# Altium integrated library Atmel AT40K.IntLib: 139 symbols (part 3 of 12)
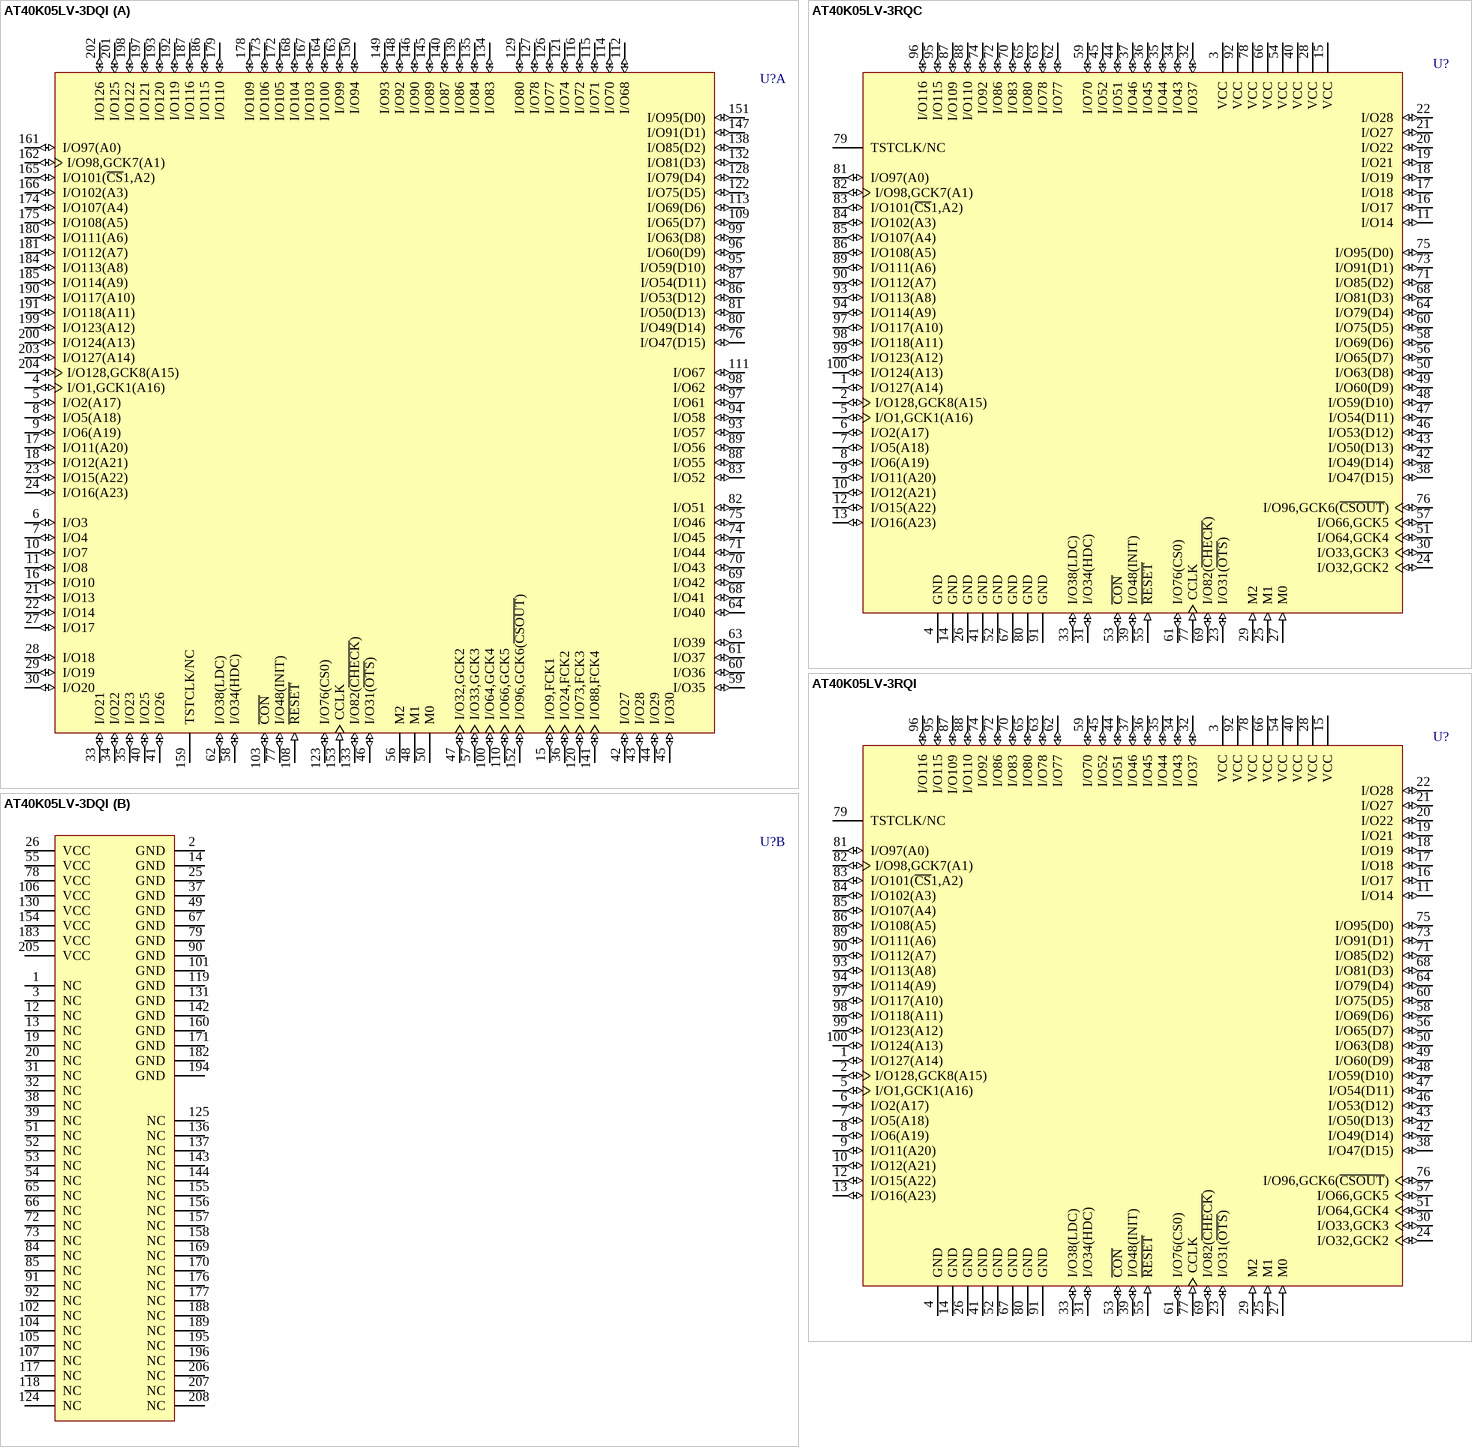
[diagram p109: symbols AT40K05LV-3DQI to AT40K05LV-3RQI]

## AT40K05LV-3DQI
designator U?
AT40K05LV 3.3V FPGA, 128 User I/Os, 208-Lead PQFP, Speed Grade 3, Industrial Grade; Published: 17-Dec-2003; LatestRevisionDate: 13-Apr-2006; LatestRevisionNote: IPC-7351 Footprint Added.; DatasheetVersion: Rev. 0896C-04/02; PackageVersion: rev.A, Nov-2001; PackageReference: 208Q1; Publisher: Altium Limited; PackageDescription: 208-Pin Shrink Quad Flat Pack 0.5 mm Pitch; ComponentLink1Description: Manufacturer Link; ComponentLink1URL: http://www.atmel.com/products/FPGA/; ComponentLink2Description: Datasheet; ComponentLink2URL: http://www.atmel.com/dyn/resources/prod_documents/DOC0896.PDF
footprint 208Q1_N (Shrink QFP, 208-Leads, Body 28x28mm, Pitch 0.5mm, IPC Medium Density)
footprint 208Q1_L (Shrink QFP, 208-Leads, Body 28x28mm, Pitch 0.5mm, IPC High Density)
footprint 208Q1_M (Shrink QFP, 208-Leads, Body 28x28mm, Pitch 0.5mm, IPC Low Density)
3D model AT40K05LV-208Q1 (208-Pin Shrink Quad Flat Pack 0.5 mm Pitch)
part A pins: 4 I/O1,GCK1(A16) (io), 5 I/O2(A17) (io), 6 I/O3 (io), 7 I/O4 (io), 8 I/O5(A18) (io), 9 I/O6(A19) (io), 10 I/O7 (io), 11 I/O8 (io), 15 I/O9,FCK1 (io), 16 I/O10 (io), 17 I/O11(A20) (io), 18 I/O12(A21) (io), 21 I/O13 (io), 22 I/O14 (io), 23 I/O15(A22) (io), 24 I/O16(A23) (io), 27 I/O17 (io), 28 I/O18 (io), 29 I/O19 (io), 30 I/O20 (io), 33 I/O21 (io), 34 I/O22 (io), 35 I/O23 (io), 36 I/O24,FCK2 (io), 40 I/O25 (io), 41 I/O26 (io), 42 I/O27 (io), 43 I/O28 (io), 44 I/O29 (io), 45 I/O30 (io), 46 I/O31(~{OTS}) (io), 47 I/O32,GCK2 (io), 48 M1, 50 M0, 56 M2, 57 I/O33,GCK3 (io), 58 I/O34(HDC) (io), 59 I/O35 (io), 60 I/O36 (io), 61 I/O37 (io), 62 I/O38(LDC) (io), 63 I/O39 (io), 64 I/O40 (io), 68 I/O41 (io), 69 I/O42 (io), 70 I/O43 (io), 71 I/O44 (io), 74 I/O45 (io), 75 I/O46 (io), 76 I/O47(D15) (io), 77 I/O48(INIT) (io), 80 I/O49(D14) (io), 81 I/O50(D13) (io), 82 I/O51 (io), 83 I/O52 (io), 86 I/O53(D12) (io), 87 I/O54(D11) (io), 88 I/O55 (io), 89 I/O56 (io), 93 I/O57 (io), 94 I/O58 (io), 95 I/O59(D10) (io), 96 I/O60(D9) (io), 97 I/O61 (io), 98 I/O62 (io), 99 I/O63(D8) (io), 100 I/O64,GCK4 (io), 103 ~{CON} (io), 108 ~{RESET} (in), 109 I/O65(D7) (io), 110 I/O66,GCK5 (io), 111 I/O67 (io), 112 I/O68 (io), 113 I/O69(D6) (io), 114 I/O70 (io), 115 I/O71 (io), 116 I/O72 (io), 120 I/O73,FCK3 (io), 121 I/O74 (io), 122 I/O75(D5) (io), 123 I/O76(CS0) (io), 126 I/O77 (io), 127 I/O78 (io), 128 I/O79(D4) (io), 129 I/O80 (io), 132 I/O81(D3) (io), 133 I/O82(~{CHECK}) (io), 134 I/O83 (io), 135 I/O84 (io), 138 I/O85(D2) (io), 139 I/O86 (io), 140 I/O87 (io), 141 I/O88,FCK4 (io), 145 I/O89 (io), 146 I/O90 (io), 147 I/O91(D1) (io), 148 I/O92 (io), 149 I/O93 (io), 150 I/O94 (io), 151 I/O95(D0) (io), 152 I/O96,GCK6(~{CSOUT}) (io), 153 CCLK (in), 159 TSTCLK/NC, 161 I/O97(A0) (io), 162 I/O98,GCK7(A1) (io), 163 I/O99 (io), 164 I/O100 (io), 165 I/O101(~{CS}1,A2) (io), 166 I/O102(A3) (io), 167 I/O103 (io), 168 I/O104 (io), 172 I/O105 (io), 173 I/O106 (io), 174 I/O107(A4) (io), 175 I/O108(A5) (io), 178 I/O109 (io), 179 I/O110 (io), 180 I/O111(A6) (io), 181 I/O112(A7) (io), 184 I/O113(A8) (io), 185 I/O114(A9) (io), 186 I/O115 (io), 187 I/O116 (io), 190 I/O117(A10) (io), 191 I/O118(A11) (io), 192 I/O119 (io), 193 I/O120 (io), 197 I/O121 (io), 198 I/O122 (io), 199 I/O123(A12) (io), 200 I/O124(A13) (io), 201 I/O125 (io), 202 I/O126 (io), 203 I/O127(A14) (io), 204 I/O128,GCK8(A15) (io)
part B pins: 1 NC, 2 GND (power), 3 NC, 12 NC, 13 NC, 14 GND (power), 19 NC, 20 NC, 25 GND (power), 26 VCC (power), 31 NC, 32 NC, 37 GND (power), 38 NC, 39 NC, 49 GND (power), 51 NC, 52 NC, 53 NC, 54 NC, 55 VCC (power), 65 NC, 66 NC, 67 GND (power), 72 NC, 73 NC, 78 VCC (power), 79 GND (power), 84 NC, 85 NC, 90 GND (power), 91 NC, 92 NC, 101 GND (power), 102 NC, 104 NC, 105 NC, 106 VCC (power), 107 NC, 117 NC, 118 NC, 119 GND (power), 124 NC, 125 NC, 130 VCC (power), 131 GND (power), 136 NC, 137 NC, 142 GND (power), 143 NC, 144 NC, 154 VCC (power), 155 NC, 156 NC, 157 NC, 158 NC, 160 GND (power), 169 NC, 170 NC, 171 GND (power), 176 NC, 177 NC, 182 GND (power), 183 VCC (power), 188 NC, 189 NC, 194 GND (power), 195 NC, 196 NC, 205 VCC (power), 206 NC, 207 NC, 208 NC

## AT40K05LV-3RQC
designator U?
AT40K05LV 3.3V FPGA, 78 User I/Os, 100-Lead PQFP, Speed Grade 3, Commercial Grade; Published: 17-Dec-2003; LatestRevisionDate: 13-Apr-2006; LatestRevisionNote: IPC-7351 Footprint Added.; DatasheetVersion: Rev. 0896C-04/02; PackageVersion: rev.A, Mar-2002; PackageReference: 100Q4; Publisher: Altium Limited; PackageDescription: 100-Pin Quad Flat Pack Rectangular 0.65 mm Pitch; Code_JEDEC: MS-022-GC-1; Code_IPC: QFP65P1720X2320-100; ComponentLink1Description: Manufacturer Link; ComponentLink1URL: http://www.atmel.com/products/FPGA/; ComponentLink2Description: Datasheet; ComponentLink2URL: http://www.atmel.com/dyn/resources/prod_documents/DOC0896.PDF
footprint 100Q4_N (QFP, 100-Leads, Body 20x14mm, Pitch 0.65mm, IPC Medium Density)
footprint 100Q4_L (QFP, 100-Leads, Body 20x14mm, Pitch 0.65mm, IPC High Density)
footprint 100Q4_M (QFP, 100-Leads, Body 20x14mm, Pitch 0.65mm, IPC Low Density)
3D model AT40K05LV-100Q4 (100-Pin Quad Flat Pack Rectangular 0.65 mm Pitch)
pins: 1 I/O127(A14) (io), 2 I/O128,GCK8(A15) (io), 3 VCC (power), 4 GND (power), 5 I/O1,GCK1(A16) (io), 6 I/O2(A17) (io), 7 I/O5(A18) (io), 8 I/O6(A19) (io), 9 I/O11(A20) (io), 10 I/O12(A21) (io), 11 I/O14 (io), 12 I/O15(A22) (io), 13 I/O16(A23) (io), 14 GND (power), 15 VCC (power), 16 I/O17 (io), 17 I/O18 (io), 18 I/O19 (io), 19 I/O21 (io), 20 I/O22 (io), 21 I/O27 (io), 22 I/O28 (io), 23 I/O31(~{OTS}) (io), 24 I/O32,GCK2 (io), 25 M1 (in), 26 GND (power), 27 M0 (in), 28 VCC (power), 29 M2 (in), 30 I/O33,GCK3 (io), 31 I/O34(HDC) (io), 32 I/O37 (io), 33 I/O38(LDC) (io), 34 I/O43 (io), 35 I/O44 (io), 36 I/O45 (io), 37 I/O46 (io), 38 I/O47(D15) (io), 39 I/O48(INIT) (io), 40 VCC (power), 41 GND (power), 42 I/O49(D14) (io), 43 I/O50(D13) (io), 44 I/O51 (io), 45 I/O52 (io), 46 I/O53(D12) (io), 47 I/O54(D11) (io), 48 I/O59(D10) (io), 49 I/O60(D9) (io), 50 I/O63(D8) (io), 51 I/O64,GCK4 (io), 52 GND (power), 53 ~{CON} (io), 54 VCC (power), 55 ~{RESET} (in), 56 I/O65(D7) (io), 57 I/O66,GCK5 (io), 58 I/O69(D6) (io), 59 I/O70 (io), 60 I/O75(D5) (io), 61 I/O76(CS0) (io), 62 I/O77 (io), 63 I/O78 (io), 64 I/O79(D4) (io), 65 I/O80 (io), 66 VCC (power), 67 GND (power), 68 I/O81(D3) (io), 69 I/O82(~{CHECK}) (io), 70 I/O83 (io), 71 I/O85(D2) (io), 72 I/O86 (io), 73 I/O91(D1) (io), 74 I/O92 (io), 75 I/O95(D0) (io), 76 I/O96,GCK6(~{CSOUT}) (io), 77 CCLK (in), 78 VCC (power), 79 TSTCLK/NC, 80 GND (power), 81 I/O97(A0) (io), 82 I/O98,GCK7(A1) (io), 83 I/O101(~{CS}1,A2) (io), 84 I/O102(A3) (io), 85 I/O107(A4) (io), 86 I/O108(A5) (io), 87 I/O109 (io), 88 I/O110 (io), 89 I/O111(A6) (io), 90 I/O112(A7) (io), 91 GND (power), 92 VCC (power), 93 I/O113(A8) (io), 94 I/O114(A9) (io), 95 I/O115 (io), 96 I/O116 (io), 97 I/O117(A10) (io), 98 I/O118(A11) (io), 99 I/O123(A12) (io), 100 I/O124(A13) (io)

## AT40K05LV-3RQI
designator U?
AT40K05LV 3.3V FPGA, 78 User I/Os, 100-Lead PQFP, Speed Grade 3, Industrial Grade; Published: 17-Dec-2003; LatestRevisionDate: 13-Apr-2006; LatestRevisionNote: IPC-7351 Footprint Added.; DatasheetVersion: Rev. 0896C-04/02; PackageVersion: rev.A, Mar-2002; PackageReference: 100Q4; Publisher: Altium Limited; PackageDescription: 100-Pin Quad Flat Pack Rectangular 0.65 mm Pitch; Code_JEDEC: MS-022-GC-1; Code_IPC: QFP65P1720X2320-100; ComponentLink1Description: Manufacturer Link; ComponentLink1URL: http://www.atmel.com/products/FPGA/; ComponentLink2Description: Datasheet; ComponentLink2URL: http://www.atmel.com/dyn/resources/prod_documents/DOC0896.PDF
footprint 100Q4_N (QFP, 100-Leads, Body 20x14mm, Pitch 0.65mm, IPC Medium Density)
footprint 100Q4_L (QFP, 100-Leads, Body 20x14mm, Pitch 0.65mm, IPC High Density)
footprint 100Q4_M (QFP, 100-Leads, Body 20x14mm, Pitch 0.65mm, IPC Low Density)
3D model AT40K05LV-100Q4 (100-Pin Quad Flat Pack Rectangular 0.65 mm Pitch)
pins: 1 I/O127(A14) (io), 2 I/O128,GCK8(A15) (io), 3 VCC (power), 4 GND (power), 5 I/O1,GCK1(A16) (io), 6 I/O2(A17) (io), 7 I/O5(A18) (io), 8 I/O6(A19) (io), 9 I/O11(A20) (io), 10 I/O12(A21) (io), 11 I/O14 (io), 12 I/O15(A22) (io), 13 I/O16(A23) (io), 14 GND (power), 15 VCC (power), 16 I/O17 (io), 17 I/O18 (io), 18 I/O19 (io), 19 I/O21 (io), 20 I/O22 (io), 21 I/O27 (io), 22 I/O28 (io), 23 I/O31(~{OTS}) (io), 24 I/O32,GCK2 (io), 25 M1 (in), 26 GND (power), 27 M0 (in), 28 VCC (power), 29 M2 (in), 30 I/O33,GCK3 (io), 31 I/O34(HDC) (io), 32 I/O37 (io), 33 I/O38(LDC) (io), 34 I/O43 (io), 35 I/O44 (io), 36 I/O45 (io), 37 I/O46 (io), 38 I/O47(D15) (io), 39 I/O48(INIT) (io), 40 VCC (power), 41 GND (power), 42 I/O49(D14) (io), 43 I/O50(D13) (io), 44 I/O51 (io), 45 I/O52 (io), 46 I/O53(D12) (io), 47 I/O54(D11) (io), 48 I/O59(D10) (io), 49 I/O60(D9) (io), 50 I/O63(D8) (io), 51 I/O64,GCK4 (io), 52 GND (power), 53 ~{CON} (io), 54 VCC (power), 55 ~{RESET} (in), 56 I/O65(D7) (io), 57 I/O66,GCK5 (io), 58 I/O69(D6) (io), 59 I/O70 (io), 60 I/O75(D5) (io), 61 I/O76(CS0) (io), 62 I/O77 (io), 63 I/O78 (io), 64 I/O79(D4) (io), 65 I/O80 (io), 66 VCC (power), 67 GND (power), 68 I/O81(D3) (io), 69 I/O82(~{CHECK}) (io), 70 I/O83 (io), 71 I/O85(D2) (io), 72 I/O86 (io), 73 I/O91(D1) (io), 74 I/O92 (io), 75 I/O95(D0) (io), 76 I/O96,GCK6(~{CSOUT}) (io), 77 CCLK (in), 78 VCC (power), 79 TSTCLK/NC, 80 GND (power), 81 I/O97(A0) (io), 82 I/O98,GCK7(A1) (io), 83 I/O101(~{CS}1,A2) (io), 84 I/O102(A3) (io), 85 I/O107(A4) (io), 86 I/O108(A5) (io), 87 I/O109 (io), 88 I/O110 (io), 89 I/O111(A6) (io), 90 I/O112(A7) (io), 91 GND (power), 92 VCC (power), 93 I/O113(A8) (io), 94 I/O114(A9) (io), 95 I/O115 (io), 96 I/O116 (io), 97 I/O117(A10) (io), 98 I/O118(A11) (io), 99 I/O123(A12) (io), 100 I/O124(A13) (io)

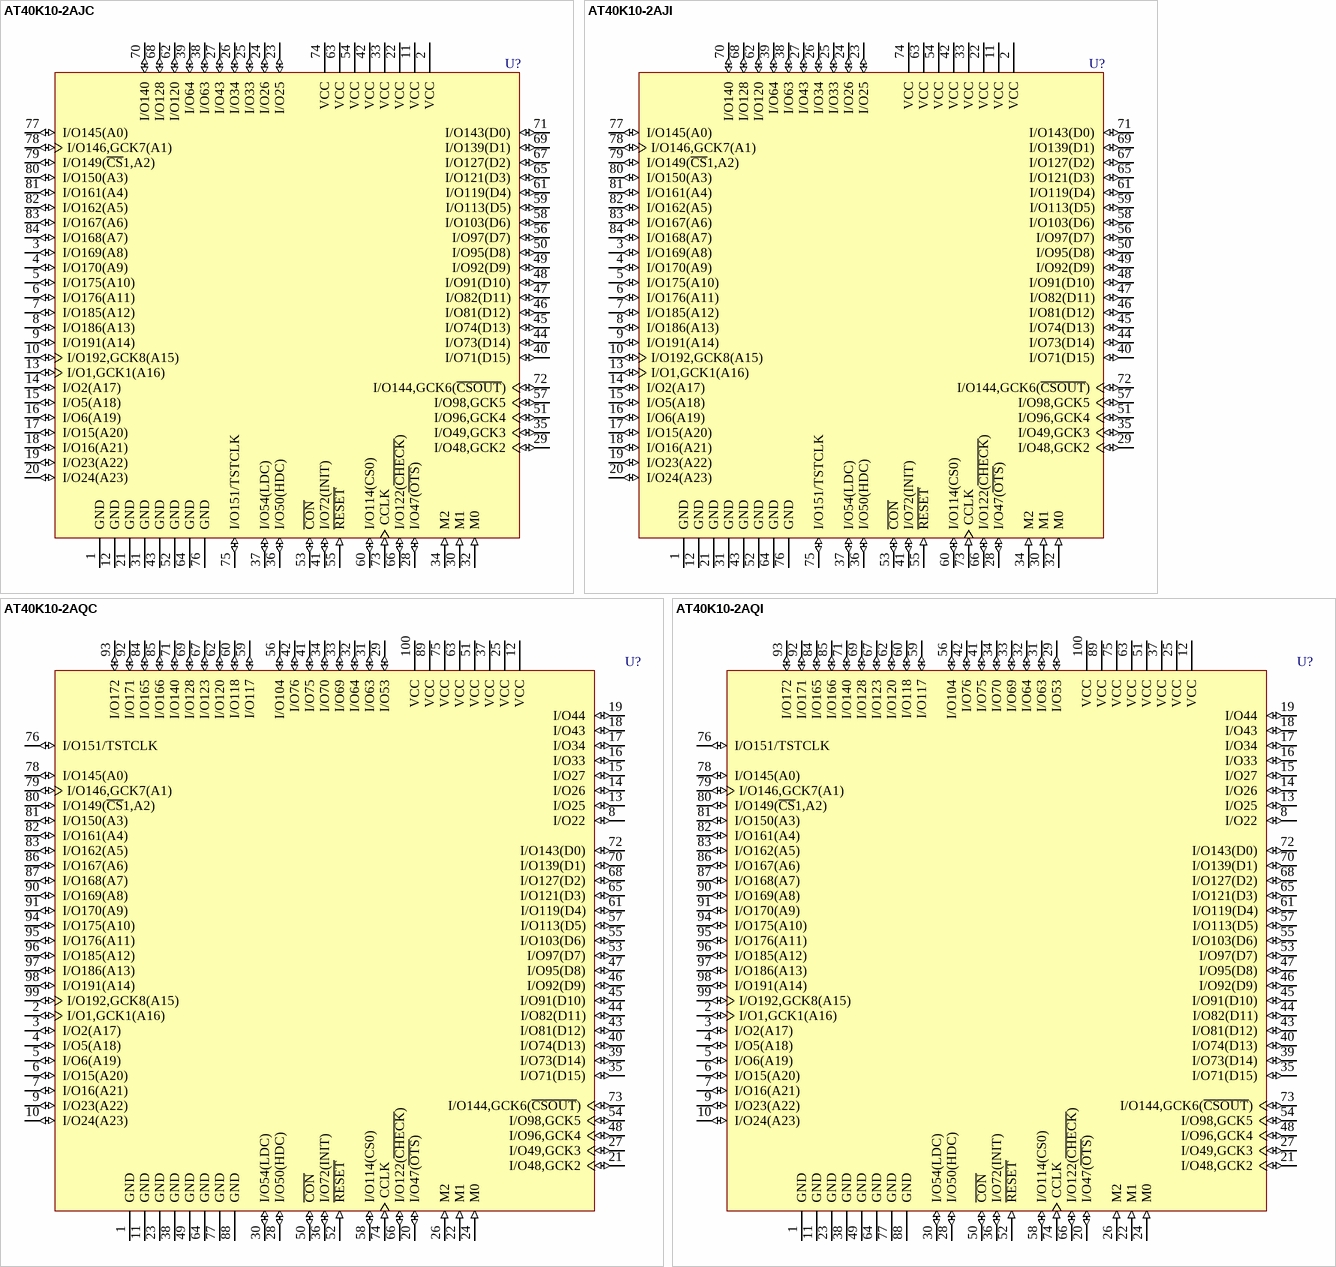
[diagram p18: symbols AT40K10-2AJC to AT40K10-2AQI]

## AT40K10-2AJC
designator U?
AT40K10 5.0V FPGA, 82 User I/Os, 84-Lead PLCC, Speed Grade 2, Commercial Grade; Published: 15-Apr-2002; LatestRevisionDate: 13-Apr-2006; LatestRevisionNote: IPC-7351 Footprint Added.; DatasheetVersion: Rev. 0896C-04/02; PackageVersion: rev.B, Oct-2001; PackageReference: 84J; Publisher: Altium Limited; PackageDescription: 84J, 84-lead, Plastic J-leaded Chip Carrier (PLCC); Code_JEDEC: MS-018-AF; Code_IPC: PLCC-84; ComponentLink1Description: Manufacturer Link; ComponentLink1URL: http://www.atmel.com/products/FPGA/; ComponentLink2Description: Datasheet; ComponentLink2URL: http://www.atmel.com/dyn/resources/prod_documents/DOC0896.PDF
footprint 84J_N (Leaded Chip Carrier, 84-Leads, Body 29.3x29.3mm, Pitch 1.27mm, IPC Medium Density)
footprint 84J_L (Leaded Chip Carrier, 84-Leads, Body 29.3x29.3mm, Pitch 1.27mm, IPC High Density)
footprint 84J_M (Leaded Chip Carrier, 84-Leads, Body 29.3x29.3mm, Pitch 1.27mm, IPC Low Density)
3D model AT40K10-84J (84J, 84-lead, Plastic J-leaded Chip Carrier (PLCC))
pins: 1 GND (power), 2 VCC (power), 3 I/O169(A8) (io), 4 I/O170(A9) (io), 5 I/O175(A10) (io), 6 I/O176(A11) (io), 7 I/O185(A12) (io), 8 I/O186(A13) (io), 9 I/O191(A14) (io), 10 I/O192,GCK8(A15) (io), 11 VCC (power), 12 GND (power), 13 I/O1,GCK1(A16) (io), 14 I/O2(A17) (io), 15 I/O5(A18) (io), 16 I/O6(A19) (io), 17 I/O15(A20) (io), 18 I/O16(A21) (io), 19 I/O23(A22) (io), 20 I/O24(A23) (io), 21 GND (power), 22 VCC (power), 23 I/O25 (io), 24 I/O26 (io), 25 I/O33 (io), 26 I/O34 (io), 27 I/O43 (io), 28 I/O47(~{OTS}) (io), 29 I/O48,GCK2 (io), 30 M1 (in), 31 GND (power), 32 M0 (in), 33 VCC (power), 34 M2 (in), 35 I/O49,GCK3 (io), 36 I/O50(HDC) (io), 37 I/O54(LDC) (io), 38 I/O63 (io), 39 I/O64 (io), 40 I/O71(D15) (io), 41 I/O72(INIT) (io), 42 VCC (power), 43 GND (power), 44 I/O73(D14) (io), 45 I/O74(D13) (io), 46 I/O81(D12) (io), 47 I/O82(D11) (io), 48 I/O91(D10) (io), 49 I/O92(D9) (io), 50 I/O95(D8) (io), 51 I/O96,GCK4 (io), 52 GND (power), 53 ~{CON} (io), 54 VCC (power), 55 ~{RESET} (in), 56 I/O97(D7) (io), 57 I/O98,GCK5 (io), 58 I/O103(D6) (io), 59 I/O113(D5) (io), 60 I/O114(CS0) (io), 61 I/O119(D4) (io), 62 I/O120 (io), 63 VCC (power), 64 GND (power), 65 I/O121(D3) (io), 66 I/O122(~{CHECK}) (io), 67 I/O127(D2) (io), 68 I/O128 (io), 69 I/O139(D1) (io), 70 I/O140 (io), 71 I/O143(D0) (io), 72 I/O144,GCK6(~{CSOUT}) (io), 73 CCLK (in), 74 VCC (power), 75 I/O151/TSTCLK (io), 76 GND (power), 77 I/O145(A0) (io), 78 I/O146,GCK7(A1) (io), 79 I/O149(~{CS}1,A2) (io), 80 I/O150(A3) (io), 81 I/O161(A4) (io), 82 I/O162(A5) (io), 83 I/O167(A6) (io), 84 I/O168(A7) (io)

## AT40K10-2AJI
designator U?
AT40K10 5.0V FPGA, 82 User I/Os, 84-Lead PLCC, Speed Grade 2, Industrial Grade; Published: 15-Apr-2002; LatestRevisionDate: 13-Apr-2006; LatestRevisionNote: IPC-7351 Footprint Added.; DatasheetVersion: Rev. 0896C-04/02; PackageVersion: rev.B, Oct-2001; PackageReference: 84J; Publisher: Altium Limited; PackageDescription: 84J, 84-lead, Plastic J-leaded Chip Carrier (PLCC); Code_JEDEC: MS-018-AF; Code_IPC: PLCC-84; ComponentLink1Description: Manufacturer Link; ComponentLink1URL: http://www.atmel.com/products/FPGA/; ComponentLink2Description: Datasheet; ComponentLink2URL: http://www.atmel.com/dyn/resources/prod_documents/DOC0896.PDF
footprint 84J_N (Leaded Chip Carrier, 84-Leads, Body 29.3x29.3mm, Pitch 1.27mm, IPC Medium Density)
footprint 84J_L (Leaded Chip Carrier, 84-Leads, Body 29.3x29.3mm, Pitch 1.27mm, IPC High Density)
footprint 84J_M (Leaded Chip Carrier, 84-Leads, Body 29.3x29.3mm, Pitch 1.27mm, IPC Low Density)
3D model AT40K10-84J (84J, 84-lead, Plastic J-leaded Chip Carrier (PLCC))
pins: 1 GND (power), 2 VCC (power), 3 I/O169(A8) (io), 4 I/O170(A9) (io), 5 I/O175(A10) (io), 6 I/O176(A11) (io), 7 I/O185(A12) (io), 8 I/O186(A13) (io), 9 I/O191(A14) (io), 10 I/O192,GCK8(A15) (io), 11 VCC (power), 12 GND (power), 13 I/O1,GCK1(A16) (io), 14 I/O2(A17) (io), 15 I/O5(A18) (io), 16 I/O6(A19) (io), 17 I/O15(A20) (io), 18 I/O16(A21) (io), 19 I/O23(A22) (io), 20 I/O24(A23) (io), 21 GND (power), 22 VCC (power), 23 I/O25 (io), 24 I/O26 (io), 25 I/O33 (io), 26 I/O34 (io), 27 I/O43 (io), 28 I/O47(~{OTS}) (io), 29 I/O48,GCK2 (io), 30 M1 (in), 31 GND (power), 32 M0 (in), 33 VCC (power), 34 M2 (in), 35 I/O49,GCK3 (io), 36 I/O50(HDC) (io), 37 I/O54(LDC) (io), 38 I/O63 (io), 39 I/O64 (io), 40 I/O71(D15) (io), 41 I/O72(INIT) (io), 42 VCC (power), 43 GND (power), 44 I/O73(D14) (io), 45 I/O74(D13) (io), 46 I/O81(D12) (io), 47 I/O82(D11) (io), 48 I/O91(D10) (io), 49 I/O92(D9) (io), 50 I/O95(D8) (io), 51 I/O96,GCK4 (io), 52 GND (power), 53 ~{CON} (io), 54 VCC (power), 55 ~{RESET} (in), 56 I/O97(D7) (io), 57 I/O98,GCK5 (io), 58 I/O103(D6) (io), 59 I/O113(D5) (io), 60 I/O114(CS0) (io), 61 I/O119(D4) (io), 62 I/O120 (io), 63 VCC (power), 64 GND (power), 65 I/O121(D3) (io), 66 I/O122(~{CHECK}) (io), 67 I/O127(D2) (io), 68 I/O128 (io), 69 I/O139(D1) (io), 70 I/O140 (io), 71 I/O143(D0) (io), 72 I/O144,GCK6(~{CSOUT}) (io), 73 CCLK (in), 74 VCC (power), 75 I/O151/TSTCLK (io), 76 GND (power), 77 I/O145(A0) (io), 78 I/O146,GCK7(A1) (io), 79 I/O149(~{CS}1,A2) (io), 80 I/O150(A3) (io), 81 I/O161(A4) (io), 82 I/O162(A5) (io), 83 I/O167(A6) (io), 84 I/O168(A7) (io)

## AT40K10-2AQC
designator U?
AT40K10 5.0V FPGA, 78 User I/Os, 100-Lead PQFP, Speed Grade 2, Commercial Grade; Published: 15-Apr-2002; LatestRevisionDate: 13-Apr-2006; LatestRevisionNote: IPC-7351 Footprint Added.; DatasheetVersion: Rev. 0896C-04/02; PackageVersion: rev.A, Nov-2001; PackageReference: 100T1; Publisher: Altium Limited; PackageDescription: 100-Pin Thin Quad Flat Pack 0.5 mm Pitch; Code_JEDEC: MS-026-AED; ComponentLink1Description: Manufacturer Link; ComponentLink1URL: http://www.atmel.com/products/FPGA/; ComponentLink2Description: Datasheet; ComponentLink2URL: http://www.atmel.com/dyn/resources/prod_documents/DOC0896.PDF
footprint 100T1_N (Thin QFP, 100-Leads, Body 14x14mm, Pitch 0.5mm, IPC Medium Density)
footprint 100T1_L (Thin QFP, 100-Leads, Body 14x14mm, Pitch 0.5mm, IPC High Density)
footprint 100T1_M (Thin QFP, 100-Leads, Body 14x14mm, Pitch 0.5mm, IPC Low Density)
3D model AT40K10-100T1 (100-Pin Thin Quad Flat Pack 0.5 mm Pitch)
pins: 1 GND (power), 2 I/O1,GCK1(A16) (io), 3 I/O2(A17) (io), 4 I/O5(A18) (io), 5 I/O6(A19) (io), 6 I/O15(A20) (io), 7 I/O16(A21) (io), 8 I/O22 (io), 9 I/O23(A22) (io), 10 I/O24(A23) (io), 11 GND (power), 12 VCC (power), 13 I/O25 (io), 14 I/O26 (io), 15 I/O27 (io), 16 I/O33 (io), 17 I/O34 (io), 18 I/O43 (io), 19 I/O44 (io), 20 I/O47(~{OTS}) (io), 21 I/O48,GCK2 (io), 22 M1 (in), 23 GND (power), 24 M0 (in), 25 VCC (power), 26 M2 (in), 27 I/O49,GCK3 (io), 28 I/O50(HDC) (io), 29 I/O53 (io), 30 I/O54(LDC) (io), 31 I/O63 (io), 32 I/O64 (io), 33 I/O69 (io), 34 I/O70 (io), 35 I/O71(D15) (io), 36 I/O72(INIT) (io), 37 VCC (power), 38 GND (power), 39 I/O73(D14) (io), 40 I/O74(D13) (io), 41 I/O75 (io), 42 I/O76 (io), 43 I/O81(D12) (io), 44 I/O82(D11) (io), 45 I/O91(D10) (io), 46 I/O92(D9) (io), 47 I/O95(D8) (io), 48 I/O96,GCK4 (io), 49 GND (power), 50 ~{CON} (io), 51 VCC (power), 52 ~{RESET} (in), 53 I/O97(D7) (io), 54 I/O98,GCK5 (io), 55 I/O103(D6) (io), 56 I/O104 (io), 57 I/O113(D5) (io), 58 I/O114(CS0) (io), 59 I/O117 (io), 60 I/O118 (io), 61 I/O119(D4) (io), 62 I/O120 (io), 63 VCC (power), 64 GND (power), 65 I/O121(D3) (io), 66 I/O122(~{CHECK}) (io), 67 I/O123 (io), 68 I/O127(D2) (io), 69 I/O128 (io), 70 I/O139(D1) (io), 71 I/O140 (io), 72 I/O143(D0) (io), 73 I/O144,GCK6(~{CSOUT}) (io), 74 CCLK (in), 75 VCC (power), 76 I/O151/TSTCLK (io), 77 GND (power), 78 I/O145(A0) (io), 79 I/O146,GCK7(A1) (io), 80 I/O149(~{CS}1,A2) (io), 81 I/O150(A3) (io), 82 I/O161(A4) (io), 83 I/O162(A5) (io), 84 I/O165 (io), 85 I/O166 (io), 86 I/O167(A6) (io), 87 I/O168(A7) (io), 88 GND (power), 89 VCC (power), 90 I/O169(A8) (io), 91 I/O170(A9) (io), 92 I/O171 (io), 93 I/O172 (io), 94 I/O175(A10) (io), 95 I/O176(A11) (io), 96 I/O185(A12) (io), 97 I/O186(A13) (io), 98 I/O191(A14) (io), 99 I/O192,GCK8(A15) (io), 100 VCC (power)

## AT40K10-2AQI
designator U?
AT40K10 5.0V FPGA, 78 User I/Os, 100-Lead PQFP, Speed Grade 2, Industrial Grade; Published: 15-Apr-2002; LatestRevisionDate: 13-Apr-2006; LatestRevisionNote: IPC-7351 Footprint Added.; DatasheetVersion: Rev. 0896C-04/02; PackageVersion: rev.A, Nov-2001; PackageReference: 100T1; Publisher: Altium Limited; PackageDescription: 100-Pin Thin Quad Flat Pack 0.5 mm Pitch; Code_JEDEC: MS-026-AED; ComponentLink1Description: Manufacturer Link; ComponentLink1URL: http://www.atmel.com/products/FPGA/; ComponentLink2Description: Datasheet; ComponentLink2URL: http://www.atmel.com/dyn/resources/prod_documents/DOC0896.PDF
footprint 100T1_N (Thin QFP, 100-Leads, Body 14x14mm, Pitch 0.5mm, IPC Medium Density)
footprint 100T1_L (Thin QFP, 100-Leads, Body 14x14mm, Pitch 0.5mm, IPC High Density)
footprint 100T1_M (Thin QFP, 100-Leads, Body 14x14mm, Pitch 0.5mm, IPC Low Density)
3D model AT40K10-100T1 (100-Pin Thin Quad Flat Pack 0.5 mm Pitch)
pins: 1 GND (power), 2 I/O1,GCK1(A16) (io), 3 I/O2(A17) (io), 4 I/O5(A18) (io), 5 I/O6(A19) (io), 6 I/O15(A20) (io), 7 I/O16(A21) (io), 8 I/O22 (io), 9 I/O23(A22) (io), 10 I/O24(A23) (io), 11 GND (power), 12 VCC (power), 13 I/O25 (io), 14 I/O26 (io), 15 I/O27 (io), 16 I/O33 (io), 17 I/O34 (io), 18 I/O43 (io), 19 I/O44 (io), 20 I/O47(~{OTS}) (io), 21 I/O48,GCK2 (io), 22 M1 (in), 23 GND (power), 24 M0 (in), 25 VCC (power), 26 M2 (in), 27 I/O49,GCK3 (io), 28 I/O50(HDC) (io), 29 I/O53 (io), 30 I/O54(LDC) (io), 31 I/O63 (io), 32 I/O64 (io), 33 I/O69 (io), 34 I/O70 (io), 35 I/O71(D15) (io), 36 I/O72(INIT) (io), 37 VCC (power), 38 GND (power), 39 I/O73(D14) (io), 40 I/O74(D13) (io), 41 I/O75 (io), 42 I/O76 (io), 43 I/O81(D12) (io), 44 I/O82(D11) (io), 45 I/O91(D10) (io), 46 I/O92(D9) (io), 47 I/O95(D8) (io), 48 I/O96,GCK4 (io), 49 GND (power), 50 ~{CON} (io), 51 VCC (power), 52 ~{RESET} (in), 53 I/O97(D7) (io), 54 I/O98,GCK5 (io), 55 I/O103(D6) (io), 56 I/O104 (io), 57 I/O113(D5) (io), 58 I/O114(CS0) (io), 59 I/O117 (io), 60 I/O118 (io), 61 I/O119(D4) (io), 62 I/O120 (io), 63 VCC (power), 64 GND (power), 65 I/O121(D3) (io), 66 I/O122(~{CHECK}) (io), 67 I/O123 (io), 68 I/O127(D2) (io), 69 I/O128 (io), 70 I/O139(D1) (io), 71 I/O140 (io), 72 I/O143(D0) (io), 73 I/O144,GCK6(~{CSOUT}) (io), 74 CCLK (in), 75 VCC (power), 76 I/O151/TSTCLK (io), 77 GND (power), 78 I/O145(A0) (io), 79 I/O146,GCK7(A1) (io), 80 I/O149(~{CS}1,A2) (io), 81 I/O150(A3) (io), 82 I/O161(A4) (io), 83 I/O162(A5) (io), 84 I/O165 (io), 85 I/O166 (io), 86 I/O167(A6) (io), 87 I/O168(A7) (io), 88 GND (power), 89 VCC (power), 90 I/O169(A8) (io), 91 I/O170(A9) (io), 92 I/O171 (io), 93 I/O172 (io), 94 I/O175(A10) (io), 95 I/O176(A11) (io), 96 I/O185(A12) (io), 97 I/O186(A13) (io), 98 I/O191(A14) (io), 99 I/O192,GCK8(A15) (io), 100 VCC (power)

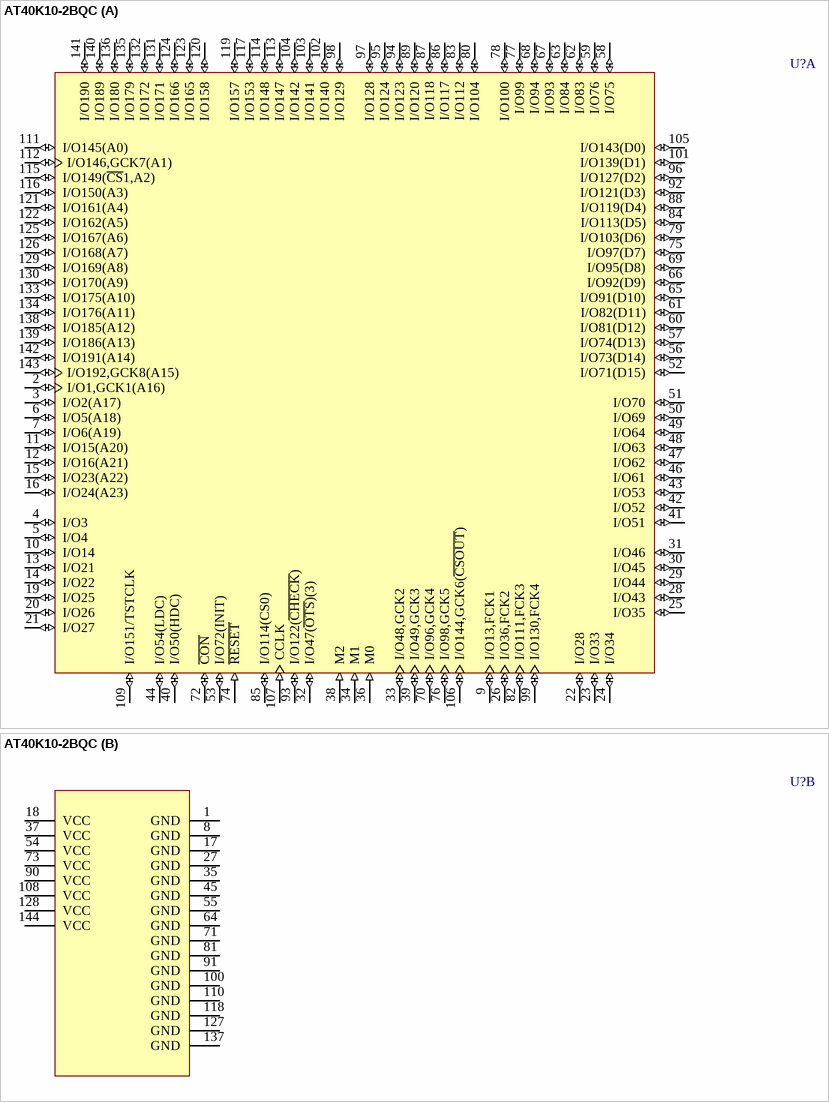
[diagram p19: symbol AT40K10-2BQC]

## AT40K10-2BQC
designator U?
AT40K10 5.0V FPGA, 114 User I/Os, 144-Lead LQFP, Speed Grade 2, Commercial Grade; Published: 15-Apr-2002; LatestRevisionDate: 13-Apr-2006; LatestRevisionNote: IPC-7351 Footprint Added.; DatasheetVersion: Rev. 0896C-04/02; PackageVersion: rev.A, Nov-2001; PackageReference: 144L1; Publisher: Altium Limited; PackageDescription: 144-Pin Thin Quad Flat Pack 0.5 mm Pitch; Code_JEDEC: MS-026-BFB; ComponentLink1Description: Manufacturer Link; ComponentLink1URL: http://www.atmel.com/products/FPGA/; ComponentLink2Description: Datasheet; ComponentLink2URL: http://www.atmel.com/dyn/resources/prod_documents/DOC0896.PDF
footprint 144L1_N (Thin QFP, 144-Leads, Body 20x20mm, Pitch 0.5mm, IPC Medium Density)
footprint 144L1_L (Thin QFP, 144-Leads, Body 20x20mm, Pitch 0.5mm, IPC High Density)
footprint 144L1_M (Thin QFP, 144-Leads, Body 20x20mm, Pitch 0.5mm, IPC Low Density)
3D model AT40K10-144L1 (144-Pin Thin Quad Flat Pack 0.5 mm Pitch)
part A pins: 2 I/O1,GCK1(A16) (io), 3 I/O2(A17) (io), 4 I/O3 (io), 5 I/O4 (io), 6 I/O5(A18) (io), 7 I/O6(A19) (io), 9 I/O13,FCK1 (io), 10 I/O14 (io), 11 I/O15(A20) (io), 12 I/O16(A21) (io), 13 I/O21 (io), 14 I/O22 (io), 15 I/O23(A22) (io), 16 I/O24(A23) (io), 19 I/O25 (io), 20 I/O26 (io), 21 I/O27 (io), 22 I/O28 (io), 23 I/O33 (io), 24 I/O34 (io), 25 I/O35 (io), 26 I/O36,FCK2 (io), 28 I/O43 (io), 29 I/O44 (io), 30 I/O45 (io), 31 I/O46 (io), 32 I/O47(~{OTS})(3) (io), 33 I/O48,GCK2 (io), 34 M1 (in), 36 M0 (in), 38 M2 (in), 39 I/O49,GCK3 (io), 40 I/O50(HDC) (io), 41 I/O51 (io), 42 I/O52 (io), 43 I/O53 (io), 44 I/O54(LDC) (io), 46 I/O61 (io), 47 I/O62 (io), 48 I/O63 (io), 49 I/O64 (io), 50 I/O69 (io), 51 I/O70 (io), 52 I/O71(D15) (io), 53 I/O72(INIT) (io), 56 I/O73(D14) (io), 57 I/O74(D13) (io), 58 I/O75 (io), 59 I/O76 (io), 60 I/O81(D12) (io), 61 I/O82(D11) (io), 62 I/O83 (io), 63 I/O84 (io), 65 I/O91(D10) (io), 66 I/O92(D9) (io), 67 I/O93 (io), 68 I/O94 (io), 69 I/O95(D8) (io), 70 I/O96,GCK4 (io), 72 ~{CON} (io), 74 ~{RESET} (in), 75 I/O97(D7) (io), 76 I/O98,GCK5 (io), 77 I/O99 (io), 78 I/O100 (io), 79 I/O103(D6) (io), 80 I/O104 (io), 82 I/O111,FCK3 (io), 83 I/O112 (io), 84 I/O113(D5) (io), 85 I/O114(CS0) (io), 86 I/O117 (io), 87 I/O118 (io), 88 I/O119(D4) (io), 89 I/O120 (io), 92 I/O121(D3) (io), 93 I/O122(~{CHECK}) (io), 94 I/O123 (io), 95 I/O124 (io), 96 I/O127(D2) (io), 97 I/O128 (io), 98 I/O129 (io), 99 I/O130,FCK4 (io), 101 I/O139(D1) (io), 102 I/O140 (io), 103 I/O141 (io), 104 I/O142 (io), 105 I/O143(D0) (io), 106 I/O144,GCK6(~{CSOUT}) (io), 107 CCLK (in), 109 I/O151/TSTCLK (io), 111 I/O145(A0) (io), 112 I/O146,GCK7(A1) (io), 113 I/O147 (io), 114 I/O148 (io), 115 I/O149(~{CS}1,A2) (io), 116 I/O150(A3) (io), 117 I/O153 (io), 119 I/O157 (io), 120 I/O158 (io), 121 I/O161(A4) (io), 122 I/O162(A5) (io), 123 I/O165 (io), 124 I/O166 (io), 125 I/O167(A6) (io), 126 I/O168(A7) (io), 129 I/O169(A8) (io), 130 I/O170(A9) (io), 131 I/O171 (io), 132 I/O172 (io), 133 I/O175(A10) (io), 134 I/O176(A11) (io), 135 I/O179 (io), 136 I/O180 (io), 138 I/O185(A12) (io), 139 I/O186(A13) (io), 140 I/O189 (io), 141 I/O190 (io), 142 I/O191(A14) (io), 143 I/O192,GCK8(A15) (io)
part B pins: 1 GND (power), 8 GND (power), 17 GND (power), 18 VCC (power), 27 GND (power), 35 GND (power), 37 VCC (power), 45 GND (power), 54 VCC (power), 55 GND (power), 64 GND (power), 71 GND (power), 73 VCC (power), 81 GND (power), 90 VCC (power), 91 GND (power), 100 GND (power), 108 VCC (power), 110 GND (power), 118 GND (power), 127 GND (power), 128 VCC (power), 137 GND (power), 144 VCC (power)

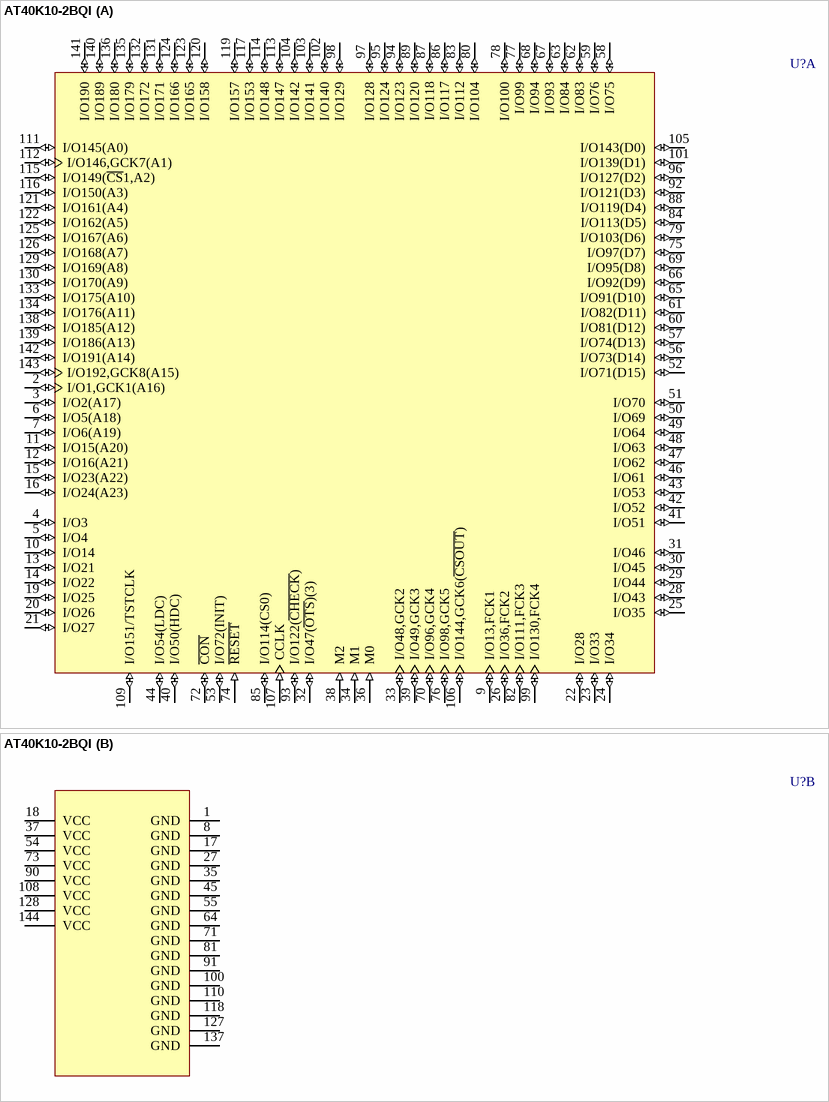
[diagram p20: symbol AT40K10-2BQI]

## AT40K10-2BQI
designator U?
AT40K10 5.0V FPGA, 114 User I/Os, 144-Lead LQFP, Speed Grade 2, Industrial Grade; Published: 15-Apr-2002; LatestRevisionDate: 13-Apr-2006; LatestRevisionNote: IPC-7351 Footprint Added.; DatasheetVersion: Rev. 0896C-04/02; PackageVersion: rev.A, Nov-2001; PackageReference: 144L1; Publisher: Altium Limited; PackageDescription: 144-Pin Thin Quad Flat Pack 0.5 mm Pitch; Code_JEDEC: MS-026-BFB; ComponentLink1Description: Manufacturer Link; ComponentLink1URL: http://www.atmel.com/products/FPGA/; ComponentLink2Description: Datasheet; ComponentLink2URL: http://www.atmel.com/dyn/resources/prod_documents/DOC0896.PDF
footprint 144L1_N (Thin QFP, 144-Leads, Body 20x20mm, Pitch 0.5mm, IPC Medium Density)
footprint 144L1_L (Thin QFP, 144-Leads, Body 20x20mm, Pitch 0.5mm, IPC High Density)
footprint 144L1_M (Thin QFP, 144-Leads, Body 20x20mm, Pitch 0.5mm, IPC Low Density)
3D model AT40K10-144L1 (144-Pin Thin Quad Flat Pack 0.5 mm Pitch)
part A pins: 2 I/O1,GCK1(A16) (io), 3 I/O2(A17) (io), 4 I/O3 (io), 5 I/O4 (io), 6 I/O5(A18) (io), 7 I/O6(A19) (io), 9 I/O13,FCK1 (io), 10 I/O14 (io), 11 I/O15(A20) (io), 12 I/O16(A21) (io), 13 I/O21 (io), 14 I/O22 (io), 15 I/O23(A22) (io), 16 I/O24(A23) (io), 19 I/O25 (io), 20 I/O26 (io), 21 I/O27 (io), 22 I/O28 (io), 23 I/O33 (io), 24 I/O34 (io), 25 I/O35 (io), 26 I/O36,FCK2 (io), 28 I/O43 (io), 29 I/O44 (io), 30 I/O45 (io), 31 I/O46 (io), 32 I/O47(~{OTS})(3) (io), 33 I/O48,GCK2 (io), 34 M1 (in), 36 M0 (in), 38 M2 (in), 39 I/O49,GCK3 (io), 40 I/O50(HDC) (io), 41 I/O51 (io), 42 I/O52 (io), 43 I/O53 (io), 44 I/O54(LDC) (io), 46 I/O61 (io), 47 I/O62 (io), 48 I/O63 (io), 49 I/O64 (io), 50 I/O69 (io), 51 I/O70 (io), 52 I/O71(D15) (io), 53 I/O72(INIT) (io), 56 I/O73(D14) (io), 57 I/O74(D13) (io), 58 I/O75 (io), 59 I/O76 (io), 60 I/O81(D12) (io), 61 I/O82(D11) (io), 62 I/O83 (io), 63 I/O84 (io), 65 I/O91(D10) (io), 66 I/O92(D9) (io), 67 I/O93 (io), 68 I/O94 (io), 69 I/O95(D8) (io), 70 I/O96,GCK4 (io), 72 ~{CON} (io), 74 ~{RESET} (in), 75 I/O97(D7) (io), 76 I/O98,GCK5 (io), 77 I/O99 (io), 78 I/O100 (io), 79 I/O103(D6) (io), 80 I/O104 (io), 82 I/O111,FCK3 (io), 83 I/O112 (io), 84 I/O113(D5) (io), 85 I/O114(CS0) (io), 86 I/O117 (io), 87 I/O118 (io), 88 I/O119(D4) (io), 89 I/O120 (io), 92 I/O121(D3) (io), 93 I/O122(~{CHECK}) (io), 94 I/O123 (io), 95 I/O124 (io), 96 I/O127(D2) (io), 97 I/O128 (io), 98 I/O129 (io), 99 I/O130,FCK4 (io), 101 I/O139(D1) (io), 102 I/O140 (io), 103 I/O141 (io), 104 I/O142 (io), 105 I/O143(D0) (io), 106 I/O144,GCK6(~{CSOUT}) (io), 107 CCLK (in), 109 I/O151/TSTCLK (io), 111 I/O145(A0) (io), 112 I/O146,GCK7(A1) (io), 113 I/O147 (io), 114 I/O148 (io), 115 I/O149(~{CS}1,A2) (io), 116 I/O150(A3) (io), 117 I/O153 (io), 119 I/O157 (io), 120 I/O158 (io), 121 I/O161(A4) (io), 122 I/O162(A5) (io), 123 I/O165 (io), 124 I/O166 (io), 125 I/O167(A6) (io), 126 I/O168(A7) (io), 129 I/O169(A8) (io), 130 I/O170(A9) (io), 131 I/O171 (io), 132 I/O172 (io), 133 I/O175(A10) (io), 134 I/O176(A11) (io), 135 I/O179 (io), 136 I/O180 (io), 138 I/O185(A12) (io), 139 I/O186(A13) (io), 140 I/O189 (io), 141 I/O190 (io), 142 I/O191(A14) (io), 143 I/O192,GCK8(A15) (io)
part B pins: 1 GND (power), 8 GND (power), 17 GND (power), 18 VCC (power), 27 GND (power), 35 GND (power), 37 VCC (power), 45 GND (power), 54 VCC (power), 55 GND (power), 64 GND (power), 71 GND (power), 73 VCC (power), 81 GND (power), 90 VCC (power), 91 GND (power), 100 GND (power), 108 VCC (power), 110 GND (power), 118 GND (power), 127 GND (power), 128 VCC (power), 137 GND (power), 144 VCC (power)

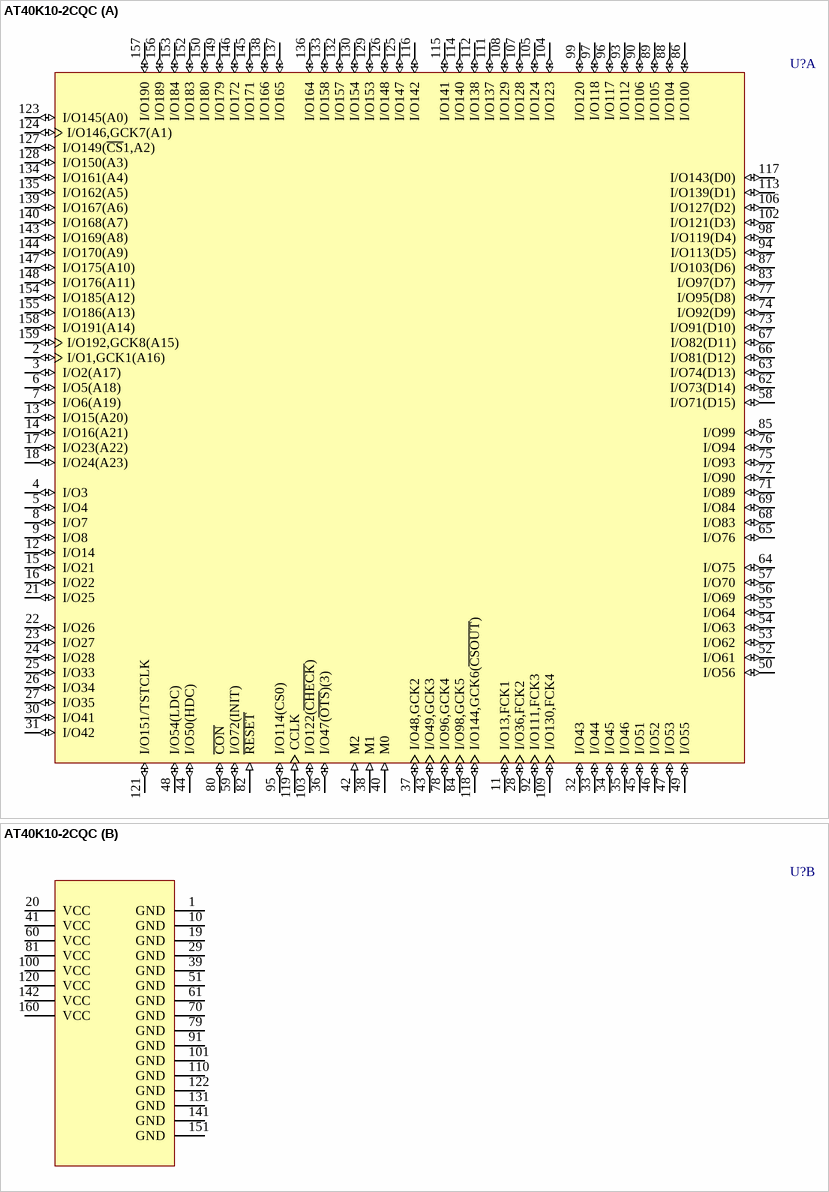
[diagram p21: symbol AT40K10-2CQC]

## AT40K10-2CQC
designator U?
AT40K10 5.0V FPGA, 130 User I/Os, 160-Lead PQFP, Speed Grade 2, Commercial Grade; Published: 15-Apr-2002; LatestRevisionDate: 13-Apr-2006; LatestRevisionNote: IPC-7351 Footprint Added.; DatasheetVersion: Rev. 0896C-04/02; PackageVersion: rev.A, Mar-2002; PackageReference: 160Q1; Publisher: Altium Limited; PackageDescription: 160-Pin Quad Flat Pack 0.65 mm Pitch; Code_JEDEC: MS-022-DD-1; Code_IPC: QFP65P3120X3120-160; ComponentLink1Description: Manufacturer Link; ComponentLink1URL: http://www.atmel.com/products/FPGA/; ComponentLink2Description: Datasheet; ComponentLink2URL: http://www.atmel.com/dyn/resources/prod_documents/DOC0896.PDF
footprint 160Q1_N (QFP, 160-Leads, Body 28 x 28mm, Pitch 0.65mm, IPC Medium Density)
footprint 160Q1_L (QFP, 160-Leads, Body 28 x 28mm, Pitch 0.65mm, IPC High Density)
footprint 160Q1_M (QFP, 160-Leads, Body 28 x 28mm, Pitch 0.65mm, IPC Low Density)
3D model AT40K10-160Q1 (160-Pin Quad Flat Pack 0.65 mm Pitch)
part A pins: 2 I/O1,GCK1(A16) (io), 3 I/O2(A17) (io), 4 I/O3 (io), 5 I/O4 (io), 6 I/O5(A18) (io), 7 I/O6(A19) (io), 8 I/O7 (io), 9 I/O8 (io), 11 I/O13,FCK1 (io), 12 I/O14 (io), 13 I/O15(A20) (io), 14 I/O16(A21) (io), 15 I/O21 (io), 16 I/O22 (io), 17 I/O23(A22) (io), 18 I/O24(A23) (io), 21 I/O25 (io), 22 I/O26 (io), 23 I/O27 (io), 24 I/O28 (io), 25 I/O33 (io), 26 I/O34 (io), 27 I/O35 (io), 28 I/O36,FCK2 (io), 30 I/O41 (io), 31 I/O42 (io), 32 I/O43 (io), 33 I/O44 (io), 34 I/O45 (io), 35 I/O46 (io), 36 I/O47(~{OTS})(3) (io), 37 I/O48,GCK2 (io), 38 M1 (in), 40 M0 (in), 42 M2 (in), 43 I/O49,GCK3 (io), 44 I/O50(HDC) (io), 45 I/O51 (io), 46 I/O52 (io), 47 I/O53 (io), 48 I/O54(LDC) (io), 49 I/O55 (io), 50 I/O56 (io), 52 I/O61 (io), 53 I/O62 (io), 54 I/O63 (io), 55 I/O64 (io), 56 I/O69 (io), 57 I/O70 (io), 58 I/O71(D15) (io), 59 I/O72(INIT) (io), 62 I/O73(D14) (io), 63 I/O74(D13) (io), 64 I/O75 (io), 65 I/O76 (io), 66 I/O81(D12) (io), 67 I/O82(D11) (io), 68 I/O83 (io), 69 I/O84 (io), 71 I/O89 (io), 72 I/O90 (io), 73 I/O91(D10) (io), 74 I/O92(D9) (io), 75 I/O93 (io), 76 I/O94 (io), 77 I/O95(D8) (io), 78 I/O96,GCK4 (io), 80 ~{CON} (io), 82 ~{RESET} (in), 83 I/O97(D7) (io), 84 I/O98,GCK5 (io), 85 I/O99 (io), 86 I/O100 (io), 87 I/O103(D6) (io), 88 I/O104 (io), 89 I/O105 (io), 90 I/O106 (io), 92 I/O111,FCK3 (io), 93 I/O112 (io), 94 I/O113(D5) (io), 95 I/O114(CS0) (io), 96 I/O117 (io), 97 I/O118 (io), 98 I/O119(D4) (io), 99 I/O120 (io), 102 I/O121(D3) (io), 103 I/O122(~{CHECK}) (io), 104 I/O123 (io), 105 I/O124 (io), 106 I/O127(D2) (io), 107 I/O128 (io), 108 I/O129 (io), 109 I/O130,FCK4 (io), 111 I/O137 (io), 112 I/O138 (io), 113 I/O139(D1) (io), 114 I/O140 (io), 115 I/O141 (io), 116 I/O142 (io), 117 I/O143(D0) (io), 118 I/O144,GCK6(~{CSOUT}) (io), 119 CCLK (in), 121 I/O151/TSTCLK (io), 123 I/O145(A0) (io), 124 I/O146,GCK7(A1) (io), 125 I/O147 (io), 126 I/O148 (io), 127 I/O149(~{CS}1,A2) (io), 128 I/O150(A3) (io), 129 I/O153 (io), 130 I/O154 (io), 132 I/O157 (io), 133 I/O158 (io), 134 I/O161(A4) (io), 135 I/O162(A5) (io), 136 I/O164 (io), 137 I/O165 (io), 138 I/O166 (io), 139 I/O167(A6) (io), 140 I/O168(A7) (io), 143 I/O169(A8) (io), 144 I/O170(A9) (io), 145 I/O171 (io), 146 I/O172 (io), 147 I/O175(A10) (io), 148 I/O176(A11) (io), 149 I/O179 (io), 150 I/O180 (io), 152 I/O183 (io), 153 I/O184 (io), 154 I/O185(A12) (io), 155 I/O186(A13) (io), 156 I/O189 (io), 157 I/O190 (io), 158 I/O191(A14) (io), 159 I/O192,GCK8(A15) (io)
part B pins: 1 GND (power), 10 GND (power), 19 GND (power), 20 VCC (power), 29 GND (power), 39 GND (power), 41 VCC (power), 51 GND (power), 60 VCC (power), 61 GND (power), 70 GND (power), 79 GND (power), 81 VCC (power), 91 GND (power), 100 VCC (power), 101 GND (power), 110 GND (power), 120 VCC (power), 122 GND (power), 131 GND (power), 141 GND (power), 142 VCC (power), 151 GND (power), 160 VCC (power)

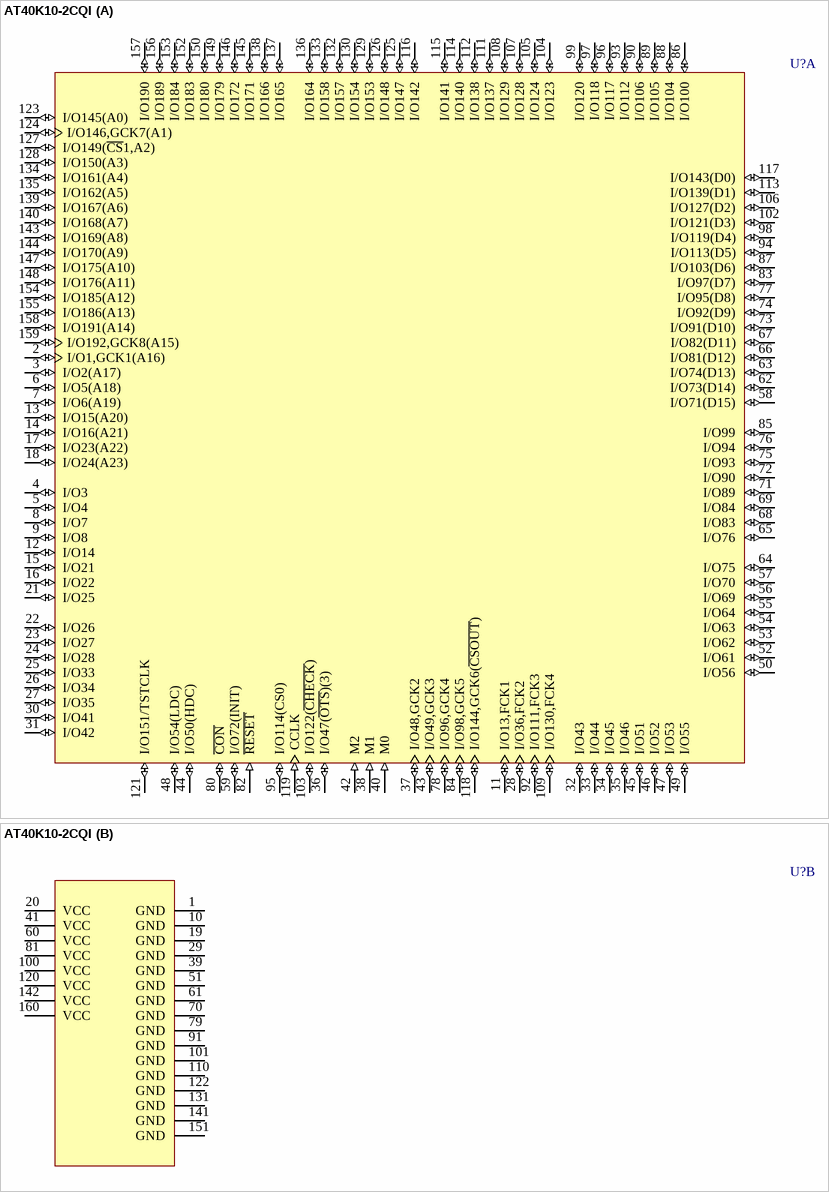
[diagram p22: symbol AT40K10-2CQI]

## AT40K10-2CQI
designator U?
AT40K10 5.0V FPGA, 130 User I/Os, 160-Lead PQFP, Speed Grade 2, Industrial Grade; Published: 15-Apr-2002; LatestRevisionDate: 13-Apr-2006; LatestRevisionNote: IPC-7351 Footprint Added.; DatasheetVersion: Rev. 0896C-04/02; PackageVersion: rev.A, Mar-2002; PackageReference: 160Q1; Publisher: Altium Limited; PackageDescription: 160-Pin Quad Flat Pack 0.65 mm Pitch; Code_JEDEC: MS-022-DD-1; Code_IPC: QFP65P3120X3120-160; ComponentLink1Description: Manufacturer Link; ComponentLink1URL: http://www.atmel.com/products/FPGA/; ComponentLink2Description: Datasheet; ComponentLink2URL: http://www.atmel.com/dyn/resources/prod_documents/DOC0896.PDF
footprint 160Q1_N (QFP, 160-Leads, Body 28 x 28mm, Pitch 0.65mm, IPC Medium Density)
footprint 160Q1_L (QFP, 160-Leads, Body 28 x 28mm, Pitch 0.65mm, IPC High Density)
footprint 160Q1_M (QFP, 160-Leads, Body 28 x 28mm, Pitch 0.65mm, IPC Low Density)
3D model AT40K10-160Q1 (160-Pin Quad Flat Pack 0.65 mm Pitch)
part A pins: 2 I/O1,GCK1(A16) (io), 3 I/O2(A17) (io), 4 I/O3 (io), 5 I/O4 (io), 6 I/O5(A18) (io), 7 I/O6(A19) (io), 8 I/O7 (io), 9 I/O8 (io), 11 I/O13,FCK1 (io), 12 I/O14 (io), 13 I/O15(A20) (io), 14 I/O16(A21) (io), 15 I/O21 (io), 16 I/O22 (io), 17 I/O23(A22) (io), 18 I/O24(A23) (io), 21 I/O25 (io), 22 I/O26 (io), 23 I/O27 (io), 24 I/O28 (io), 25 I/O33 (io), 26 I/O34 (io), 27 I/O35 (io), 28 I/O36,FCK2 (io), 30 I/O41 (io), 31 I/O42 (io), 32 I/O43 (io), 33 I/O44 (io), 34 I/O45 (io), 35 I/O46 (io), 36 I/O47(~{OTS})(3) (io), 37 I/O48,GCK2 (io), 38 M1 (in), 40 M0 (in), 42 M2 (in), 43 I/O49,GCK3 (io), 44 I/O50(HDC) (io), 45 I/O51 (io), 46 I/O52 (io), 47 I/O53 (io), 48 I/O54(LDC) (io), 49 I/O55 (io), 50 I/O56 (io), 52 I/O61 (io), 53 I/O62 (io), 54 I/O63 (io), 55 I/O64 (io), 56 I/O69 (io), 57 I/O70 (io), 58 I/O71(D15) (io), 59 I/O72(INIT) (io), 62 I/O73(D14) (io), 63 I/O74(D13) (io), 64 I/O75 (io), 65 I/O76 (io), 66 I/O81(D12) (io), 67 I/O82(D11) (io), 68 I/O83 (io), 69 I/O84 (io), 71 I/O89 (io), 72 I/O90 (io), 73 I/O91(D10) (io), 74 I/O92(D9) (io), 75 I/O93 (io), 76 I/O94 (io), 77 I/O95(D8) (io), 78 I/O96,GCK4 (io), 80 ~{CON} (io), 82 ~{RESET} (in), 83 I/O97(D7) (io), 84 I/O98,GCK5 (io), 85 I/O99 (io), 86 I/O100 (io), 87 I/O103(D6) (io), 88 I/O104 (io), 89 I/O105 (io), 90 I/O106 (io), 92 I/O111,FCK3 (io), 93 I/O112 (io), 94 I/O113(D5) (io), 95 I/O114(CS0) (io), 96 I/O117 (io), 97 I/O118 (io), 98 I/O119(D4) (io), 99 I/O120 (io), 102 I/O121(D3) (io), 103 I/O122(~{CHECK}) (io), 104 I/O123 (io), 105 I/O124 (io), 106 I/O127(D2) (io), 107 I/O128 (io), 108 I/O129 (io), 109 I/O130,FCK4 (io), 111 I/O137 (io), 112 I/O138 (io), 113 I/O139(D1) (io), 114 I/O140 (io), 115 I/O141 (io), 116 I/O142 (io), 117 I/O143(D0) (io), 118 I/O144,GCK6(~{CSOUT}) (io), 119 CCLK (in), 121 I/O151/TSTCLK (io), 123 I/O145(A0) (io), 124 I/O146,GCK7(A1) (io), 125 I/O147 (io), 126 I/O148 (io), 127 I/O149(~{CS}1,A2) (io), 128 I/O150(A3) (io), 129 I/O153 (io), 130 I/O154 (io), 132 I/O157 (io), 133 I/O158 (io), 134 I/O161(A4) (io), 135 I/O162(A5) (io), 136 I/O164 (io), 137 I/O165 (io), 138 I/O166 (io), 139 I/O167(A6) (io), 140 I/O168(A7) (io), 143 I/O169(A8) (io), 144 I/O170(A9) (io), 145 I/O171 (io), 146 I/O172 (io), 147 I/O175(A10) (io), 148 I/O176(A11) (io), 149 I/O179 (io), 150 I/O180 (io), 152 I/O183 (io), 153 I/O184 (io), 154 I/O185(A12) (io), 155 I/O186(A13) (io), 156 I/O189 (io), 157 I/O190 (io), 158 I/O191(A14) (io), 159 I/O192,GCK8(A15) (io)
part B pins: 1 GND (power), 10 GND (power), 19 GND (power), 20 VCC (power), 29 GND (power), 39 GND (power), 41 VCC (power), 51 GND (power), 60 VCC (power), 61 GND (power), 70 GND (power), 79 GND (power), 81 VCC (power), 91 GND (power), 100 VCC (power), 101 GND (power), 110 GND (power), 120 VCC (power), 122 GND (power), 131 GND (power), 141 GND (power), 142 VCC (power), 151 GND (power), 160 VCC (power)

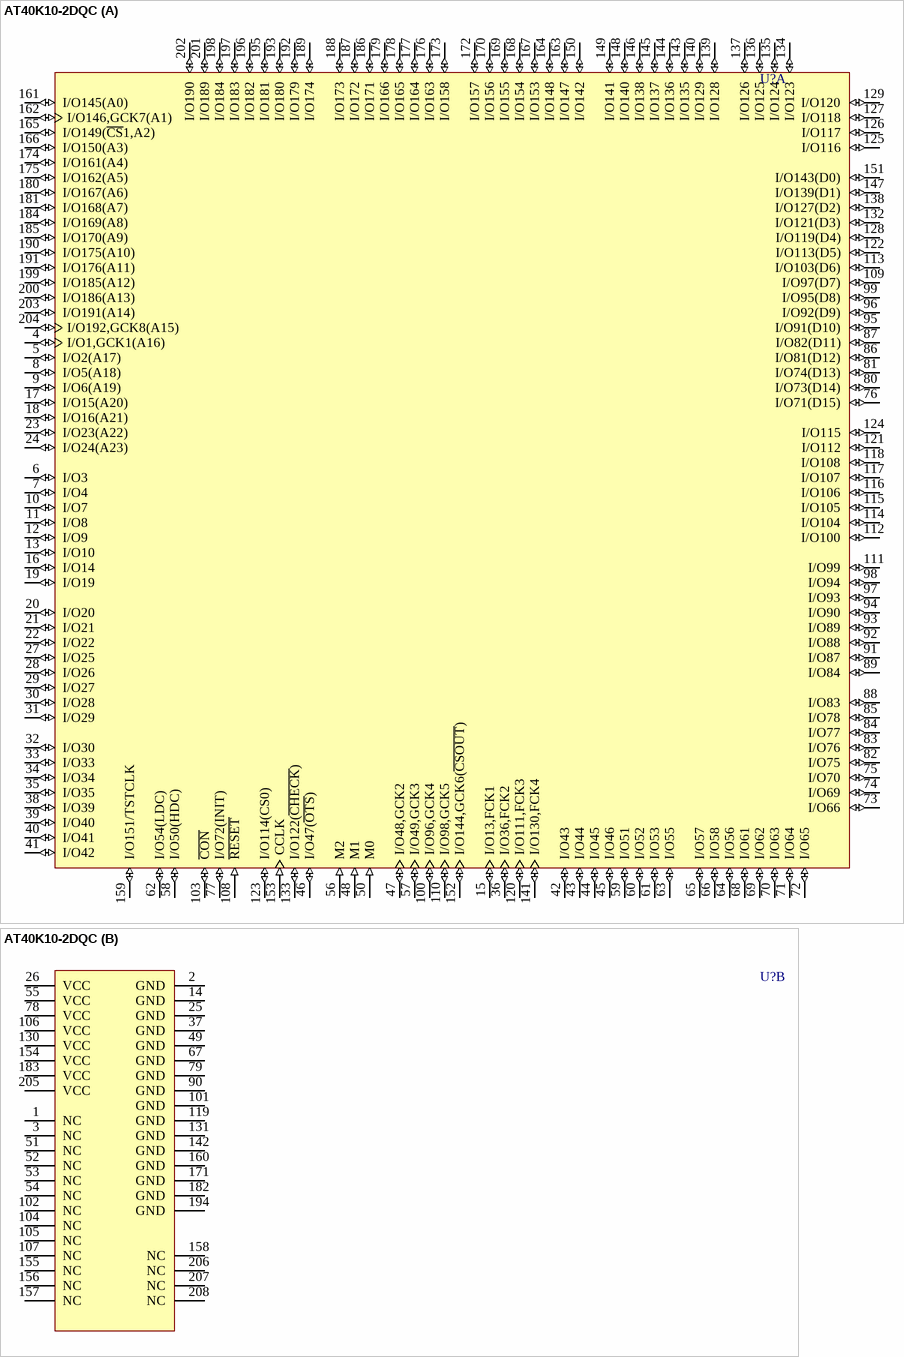
[diagram p23: symbol AT40K10-2DQC]

## AT40K10-2DQC
designator U?
AT40K10 5.0V FPGA, 161 User I/Os, 208-Lead PQFP, Speed Grade 2, Commercial Grade; Published: 15-Apr-2002; LatestRevisionDate: 13-Apr-2006; LatestRevisionNote: IPC-7351 Footprint Added.; DatasheetVersion: Rev. 0896C-04/02; PackageVersion: rev.A, Nov-2001; PackageReference: 208Q1; Publisher: Altium Limited; PackageDescription: 208-Pin Shrink Quad Flat Pack 0.5 mm Pitch; ComponentLink1Description: Manufacturer Link; ComponentLink1URL: http://www.atmel.com/products/FPGA/; ComponentLink2Description: Datasheet; ComponentLink2URL: http://www.atmel.com/dyn/resources/prod_documents/DOC0896.PDF
footprint 208Q1_N (Shrink QFP, 208-Leads, Body 28x28mm, Pitch 0.5mm, IPC Medium Density)
footprint 208Q1_L (Shrink QFP, 208-Leads, Body 28x28mm, Pitch 0.5mm, IPC High Density)
footprint 208Q1_M (Shrink QFP, 208-Leads, Body 28x28mm, Pitch 0.5mm, IPC Low Density)
3D model AT40K10-208Q1 (208-Pin Shrink Quad Flat Pack 0.5 mm Pitch)
part A pins: 4 I/O1,GCK1(A16) (io), 5 I/O2(A17) (io), 6 I/O3 (io), 7 I/O4 (io), 8 I/O5(A18) (io), 9 I/O6(A19) (io), 10 I/O7 (io), 11 I/O8 (io), 12 I/O9 (io), 13 I/O10 (io), 15 I/O13,FCK1 (io), 16 I/O14 (io), 17 I/O15(A20) (io), 18 I/O16(A21) (io), 19 I/O19 (io), 20 I/O20 (io), 21 I/O21 (io), 22 I/O22 (io), 23 I/O23(A22) (io), 24 I/O24(A23) (io), 27 I/O25 (io), 28 I/O26 (io), 29 I/O27 (io), 30 I/O28 (io), 31 I/O29 (io), 32 I/O30 (io), 33 I/O33 (io), 34 I/O34 (io), 35 I/O35 (io), 36 I/O36,FCK2 (io), 38 I/O39 (io), 39 I/O40 (io), 40 I/O41 (io), 41 I/O42 (io), 42 I/O43 (io), 43 I/O44 (io), 44 I/O45 (io), 45 I/O46 (io), 46 I/O47(~{OTS}) (io), 47 I/O48,GCK2 (io), 48 M1 (in), 50 M0 (in), 56 M2 (in), 57 I/O49,GCK3 (io), 58 I/O50(HDC) (io), 59 I/O51 (io), 60 I/O52 (io), 61 I/O53 (io), 62 I/O54(LDC) (io), 63 I/O55 (io), 64 I/O56 (io), 65 I/O57 (io), 66 I/O58 (io), 68 I/O61 (io), 69 I/O62 (io), 70 I/O63 (io), 71 I/O64 (io), 72 I/O65 (io), 73 I/O66 (io), 74 I/O69 (io), 75 I/O70 (io), 76 I/O71(D15) (io), 77 I/O72(INIT) (io), 80 I/O73(D14) (io), 81 I/O74(D13) (io), 82 I/O75 (io), 83 I/O76 (io), 84 I/O77 (io), 85 I/O78 (io), 86 I/O81(D12) (io), 87 I/O82(D11) (io), 88 I/O83 (io), 89 I/O84 (io), 91 I/O87 (io), 92 I/O88 (io), 93 I/O89 (io), 94 I/O90 (io), 95 I/O91(D10) (io), 96 I/O92(D9) (io), 97 I/O93 (io), 98 I/O94 (io), 99 I/O95(D8) (io), 100 I/O96,GCK4 (io), 103 ~{CON} (io), 108 ~{RESET} (in), 109 I/O97(D7) (io), 110 I/O98,GCK5 (io), 111 I/O99 (io), 112 I/O100 (io), 113 I/O103(D6) (io), 114 I/O104 (io), 115 I/O105 (io), 116 I/O106 (io), 117 I/O107 (io), 118 I/O108 (io), 120 I/O111,FCK3 (io), 121 I/O112 (io), 122 I/O113(D5) (io), 123 I/O114(CS0) (io), 124 I/O115 (io), 125 I/O116 (io), 126 I/O117 (io), 127 I/O118 (io), 128 I/O119(D4) (io), 129 I/O120 (io), 132 I/O121(D3) (io), 133 I/O122(~{CHECK}) (io), 134 I/O123 (io), 135 I/O124 (io), 136 I/O125 (io), 137 I/O126 (io), 138 I/O127(D2) (io), 139 I/O128 (io), 140 I/O129 (io), 141 I/O130,FCK4 (io), 143 I/O135 (io), 144 I/O136 (io), 145 I/O137 (io), 146 I/O138 (io), 147 I/O139(D1) (io), 148 I/O140 (io), 149 I/O141 (io), 150 I/O142 (io), 151 I/O143(D0) (io), 152 I/O144,GCK6(~{CSOUT}) (io), 153 CCLK (in), 159 I/O151/TSTCLK (io), 161 I/O145(A0) (io), 162 I/O146,GCK7(A1) (io), 163 I/O147 (io), 164 I/O148 (io), 165 I/O149(~{CS}1,A2) (io), 166 I/O150(A3) (io), 167 I/O153 (io), 168 I/O154 (io), 169 I/O155 (io), 170 I/O156 (io), 172 I/O157 (io), 173 I/O158 (io), 174 I/O161(A4) (io), 175 I/O162(A5) (io), 176 I/O163 (io), 177 I/O164 (io), 178 I/O165 (io), 179 I/O166 (io), 180 I/O167(A6) (io), 181 I/O168(A7) (io), 184 I/O169(A8) (io), 185 I/O170(A9) (io), 186 I/O171 (io), 187 I/O172 (io), 188 I/O173 (io), 189 I/O174 (io), 190 I/O175(A10) (io), 191 I/O176(A11) (io), 192 I/O179 (io), 193 I/O180 (io), 195 I/O181 (io), 196 I/O182 (io), 197 I/O183 (io), 198 I/O184 (io), 199 I/O185(A12) (io), 200 I/O186(A13) (io), 201 I/O189 (io), 202 I/O190 (io), 203 I/O191(A14) (io), 204 I/O192,GCK8(A15) (io)
part B pins: 1 NC, 2 GND (power), 3 NC, 14 GND (power), 25 GND (power), 26 VCC (power), 37 GND (power), 49 GND (power), 51 NC, 52 NC, 53 NC, 54 NC, 55 VCC (power), 67 GND (power), 78 VCC (power), 79 GND (power), 90 GND (power), 101 GND (power), 102 NC, 104 NC, 105 NC, 106 VCC (power), 107 NC, 119 GND (power), 130 VCC (power), 131 GND (power), 142 GND (power), 154 VCC (power), 155 NC, 156 NC, 157 NC, 158 NC, 160 GND (power), 171 GND (power), 182 GND (power), 183 VCC (power), 194 GND (power), 205 VCC (power), 206 NC, 207 NC, 208 NC

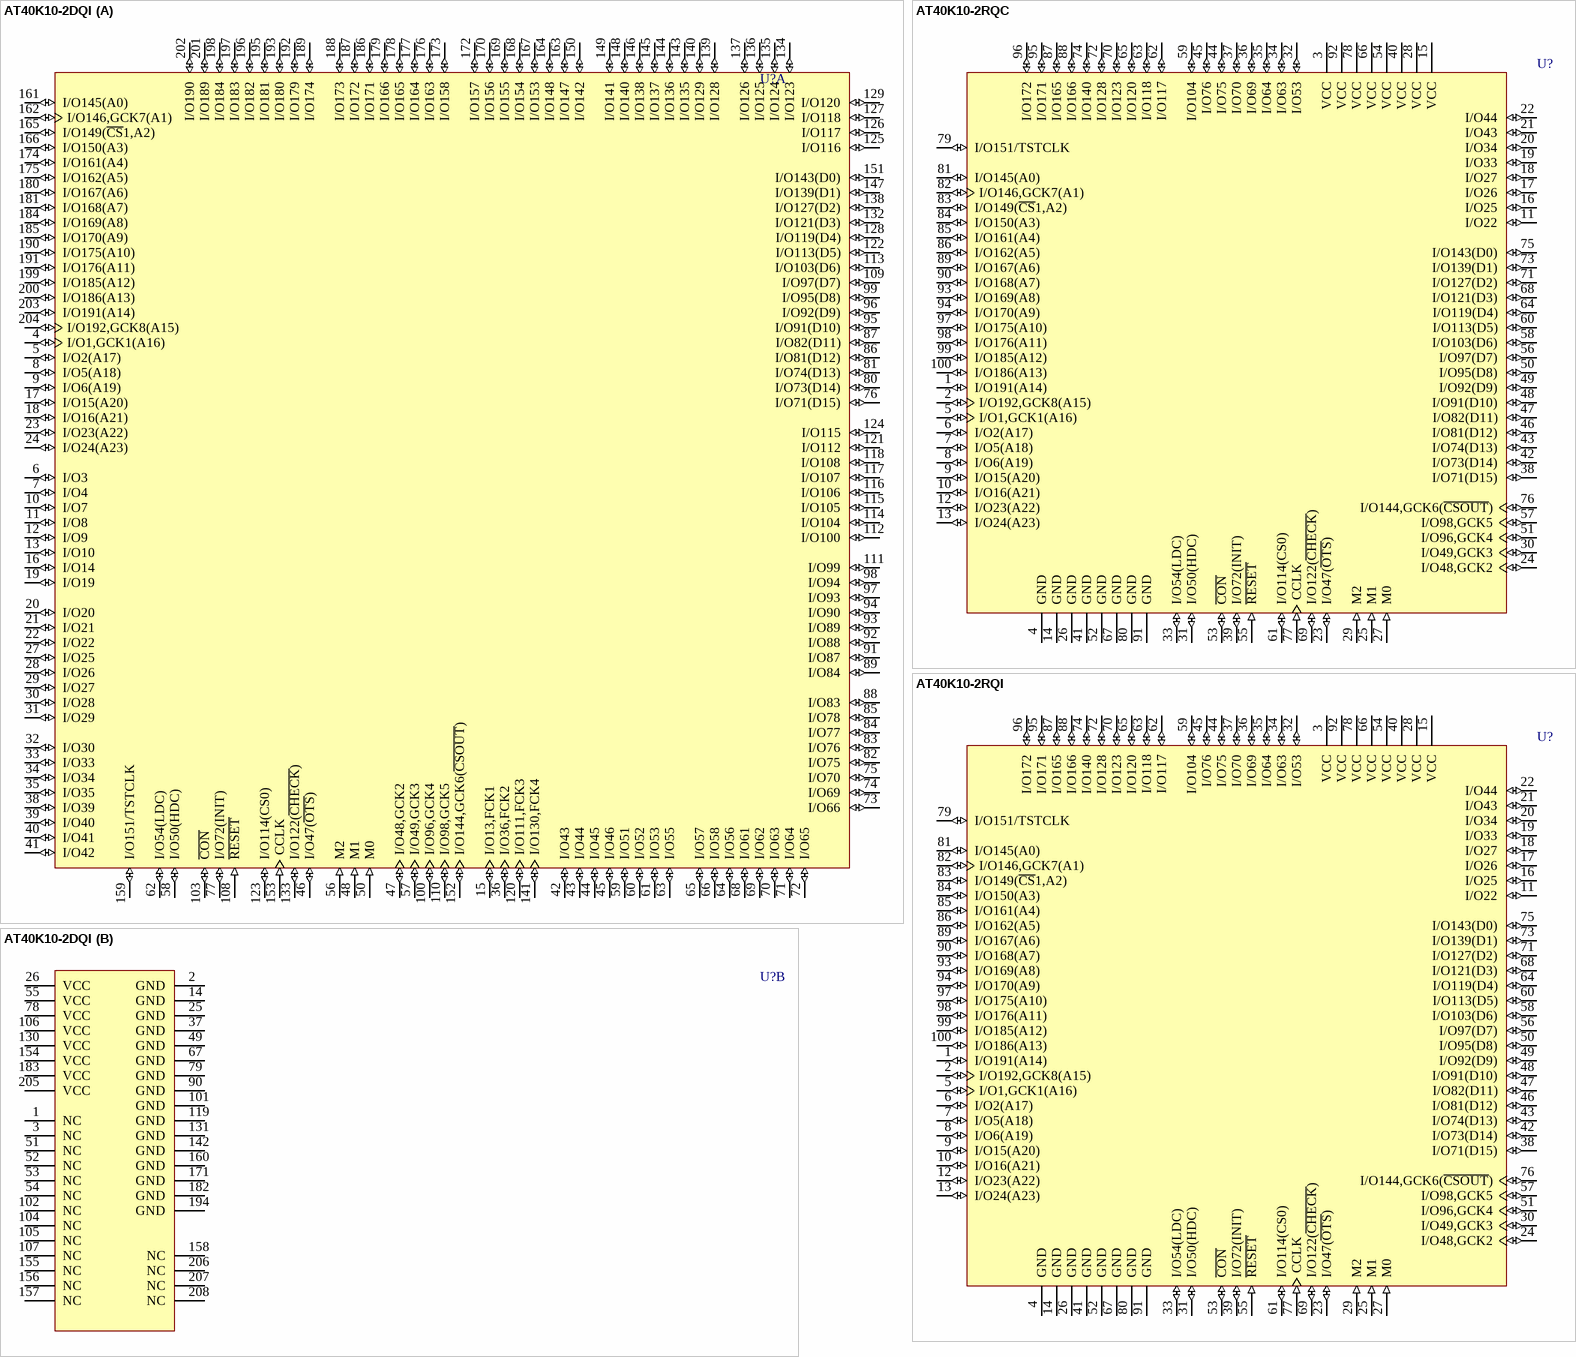
[diagram p24: symbols AT40K10-2DQI to AT40K10-2RQI]

## AT40K10-2DQI
designator U?
AT40K10 5.0V FPGA, 161 User I/Os, 208-Lead PQFP, Speed Grade 2, Industrial Grade; Published: 15-Apr-2002; LatestRevisionDate: 13-Apr-2006; LatestRevisionNote: IPC-7351 Footprint Added.; DatasheetVersion: Rev. 0896C-04/02; PackageVersion: rev.A, Nov-2001; PackageReference: 208Q1; Publisher: Altium Limited; PackageDescription: 208-Pin Shrink Quad Flat Pack 0.5 mm Pitch; ComponentLink1Description: Manufacturer Link; ComponentLink1URL: http://www.atmel.com/products/FPGA/; ComponentLink2Description: Datasheet; ComponentLink2URL: http://www.atmel.com/dyn/resources/prod_documents/DOC0896.PDF
footprint 208Q1_N (Shrink QFP, 208-Leads, Body 28x28mm, Pitch 0.5mm, IPC Medium Density)
footprint 208Q1_L (Shrink QFP, 208-Leads, Body 28x28mm, Pitch 0.5mm, IPC High Density)
footprint 208Q1_M (Shrink QFP, 208-Leads, Body 28x28mm, Pitch 0.5mm, IPC Low Density)
3D model AT40K10-208Q1 (208-Pin Shrink Quad Flat Pack 0.5 mm Pitch)
part A pins: 4 I/O1,GCK1(A16) (io), 5 I/O2(A17) (io), 6 I/O3 (io), 7 I/O4 (io), 8 I/O5(A18) (io), 9 I/O6(A19) (io), 10 I/O7 (io), 11 I/O8 (io), 12 I/O9 (io), 13 I/O10 (io), 15 I/O13,FCK1 (io), 16 I/O14 (io), 17 I/O15(A20) (io), 18 I/O16(A21) (io), 19 I/O19 (io), 20 I/O20 (io), 21 I/O21 (io), 22 I/O22 (io), 23 I/O23(A22) (io), 24 I/O24(A23) (io), 27 I/O25 (io), 28 I/O26 (io), 29 I/O27 (io), 30 I/O28 (io), 31 I/O29 (io), 32 I/O30 (io), 33 I/O33 (io), 34 I/O34 (io), 35 I/O35 (io), 36 I/O36,FCK2 (io), 38 I/O39 (io), 39 I/O40 (io), 40 I/O41 (io), 41 I/O42 (io), 42 I/O43 (io), 43 I/O44 (io), 44 I/O45 (io), 45 I/O46 (io), 46 I/O47(~{OTS}) (io), 47 I/O48,GCK2 (io), 48 M1 (in), 50 M0 (in), 56 M2 (in), 57 I/O49,GCK3 (io), 58 I/O50(HDC) (io), 59 I/O51 (io), 60 I/O52 (io), 61 I/O53 (io), 62 I/O54(LDC) (io), 63 I/O55 (io), 64 I/O56 (io), 65 I/O57 (io), 66 I/O58 (io), 68 I/O61 (io), 69 I/O62 (io), 70 I/O63 (io), 71 I/O64 (io), 72 I/O65 (io), 73 I/O66 (io), 74 I/O69 (io), 75 I/O70 (io), 76 I/O71(D15) (io), 77 I/O72(INIT) (io), 80 I/O73(D14) (io), 81 I/O74(D13) (io), 82 I/O75 (io), 83 I/O76 (io), 84 I/O77 (io), 85 I/O78 (io), 86 I/O81(D12) (io), 87 I/O82(D11) (io), 88 I/O83 (io), 89 I/O84 (io), 91 I/O87 (io), 92 I/O88 (io), 93 I/O89 (io), 94 I/O90 (io), 95 I/O91(D10) (io), 96 I/O92(D9) (io), 97 I/O93 (io), 98 I/O94 (io), 99 I/O95(D8) (io), 100 I/O96,GCK4 (io), 103 ~{CON} (io), 108 ~{RESET} (in), 109 I/O97(D7) (io), 110 I/O98,GCK5 (io), 111 I/O99 (io), 112 I/O100 (io), 113 I/O103(D6) (io), 114 I/O104 (io), 115 I/O105 (io), 116 I/O106 (io), 117 I/O107 (io), 118 I/O108 (io), 120 I/O111,FCK3 (io), 121 I/O112 (io), 122 I/O113(D5) (io), 123 I/O114(CS0) (io), 124 I/O115 (io), 125 I/O116 (io), 126 I/O117 (io), 127 I/O118 (io), 128 I/O119(D4) (io), 129 I/O120 (io), 132 I/O121(D3) (io), 133 I/O122(~{CHECK}) (io), 134 I/O123 (io), 135 I/O124 (io), 136 I/O125 (io), 137 I/O126 (io), 138 I/O127(D2) (io), 139 I/O128 (io), 140 I/O129 (io), 141 I/O130,FCK4 (io), 143 I/O135 (io), 144 I/O136 (io), 145 I/O137 (io), 146 I/O138 (io), 147 I/O139(D1) (io), 148 I/O140 (io), 149 I/O141 (io), 150 I/O142 (io), 151 I/O143(D0) (io), 152 I/O144,GCK6(~{CSOUT}) (io), 153 CCLK (in), 159 I/O151/TSTCLK (io), 161 I/O145(A0) (io), 162 I/O146,GCK7(A1) (io), 163 I/O147 (io), 164 I/O148 (io), 165 I/O149(~{CS}1,A2) (io), 166 I/O150(A3) (io), 167 I/O153 (io), 168 I/O154 (io), 169 I/O155 (io), 170 I/O156 (io), 172 I/O157 (io), 173 I/O158 (io), 174 I/O161(A4) (io), 175 I/O162(A5) (io), 176 I/O163 (io), 177 I/O164 (io), 178 I/O165 (io), 179 I/O166 (io), 180 I/O167(A6) (io), 181 I/O168(A7) (io), 184 I/O169(A8) (io), 185 I/O170(A9) (io), 186 I/O171 (io), 187 I/O172 (io), 188 I/O173 (io), 189 I/O174 (io), 190 I/O175(A10) (io), 191 I/O176(A11) (io), 192 I/O179 (io), 193 I/O180 (io), 195 I/O181 (io), 196 I/O182 (io), 197 I/O183 (io), 198 I/O184 (io), 199 I/O185(A12) (io), 200 I/O186(A13) (io), 201 I/O189 (io), 202 I/O190 (io), 203 I/O191(A14) (io), 204 I/O192,GCK8(A15) (io)
part B pins: 1 NC, 2 GND (power), 3 NC, 14 GND (power), 25 GND (power), 26 VCC (power), 37 GND (power), 49 GND (power), 51 NC, 52 NC, 53 NC, 54 NC, 55 VCC (power), 67 GND (power), 78 VCC (power), 79 GND (power), 90 GND (power), 101 GND (power), 102 NC, 104 NC, 105 NC, 106 VCC (power), 107 NC, 119 GND (power), 130 VCC (power), 131 GND (power), 142 GND (power), 154 VCC (power), 155 NC, 156 NC, 157 NC, 158 NC, 160 GND (power), 171 GND (power), 182 GND (power), 183 VCC (power), 194 GND (power), 205 VCC (power), 206 NC, 207 NC, 208 NC

## AT40K10-2RQC
designator U?
AT40K10 5.0V FPGA, 78 User I/Os, 100-Lead PQFP, Speed Grade 2, Commercial Grade; Published: 15-Apr-2002; LatestRevisionDate: 13-Apr-2006; LatestRevisionNote: IPC-7351 Footprint Added.; DatasheetVersion: Rev. 0896C-04/02; PackageVersion: rev.A, Mar-2002; PackageReference: 100Q4; Publisher: Altium Limited; PackageDescription: 100-Pin Quad Flat Pack Rectangular 0.65 mm Pitch; Code_JEDEC: MS-022-GC-1; Code_IPC: QFP65P1720X2320-100; ComponentLink1Description: Manufacturer Link; ComponentLink1URL: http://www.atmel.com/products/FPGA/; ComponentLink2Description: Datasheet; ComponentLink2URL: http://www.atmel.com/dyn/resources/prod_documents/DOC0896.PDF
footprint 100Q4_N (QFP, 100-Leads, Body 20x14mm, Pitch 0.65mm, IPC Medium Density)
footprint 100Q4_L (QFP, 100-Leads, Body 20x14mm, Pitch 0.65mm, IPC High Density)
footprint 100Q4_M (QFP, 100-Leads, Body 20x14mm, Pitch 0.65mm, IPC Low Density)
3D model AT40K10-100Q4 (100-Pin Quad Flat Pack Rectangular 0.65 mm Pitch)
pins: 1 I/O191(A14) (io), 2 I/O192,GCK8(A15) (io), 3 VCC (power), 4 GND (power), 5 I/O1,GCK1(A16) (io), 6 I/O2(A17) (io), 7 I/O5(A18) (io), 8 I/O6(A19) (io), 9 I/O15(A20) (io), 10 I/O16(A21) (io), 11 I/O22 (io), 12 I/O23(A22) (io), 13 I/O24(A23) (io), 14 GND (power), 15 VCC (power), 16 I/O25 (io), 17 I/O26 (io), 18 I/O27 (io), 19 I/O33 (io), 20 I/O34 (io), 21 I/O43 (io), 22 I/O44 (io), 23 I/O47(~{OTS}) (io), 24 I/O48,GCK2 (io), 25 M1 (in), 26 GND (power), 27 M0 (in), 28 VCC (power), 29 M2 (in), 30 I/O49,GCK3 (io), 31 I/O50(HDC) (io), 32 I/O53 (io), 33 I/O54(LDC) (io), 34 I/O63 (io), 35 I/O64 (io), 36 I/O69 (io), 37 I/O70 (io), 38 I/O71(D15) (io), 39 I/O72(INIT) (io), 40 VCC (power), 41 GND (power), 42 I/O73(D14) (io), 43 I/O74(D13) (io), 44 I/O75 (io), 45 I/O76 (io), 46 I/O81(D12) (io), 47 I/O82(D11) (io), 48 I/O91(D10) (io), 49 I/O92(D9) (io), 50 I/O95(D8) (io), 51 I/O96,GCK4 (io), 52 GND (power), 53 ~{CON} (io), 54 VCC (power), 55 ~{RESET} (in), 56 I/O97(D7) (io), 57 I/O98,GCK5 (io), 58 I/O103(D6) (io), 59 I/O104 (io), 60 I/O113(D5) (io), 61 I/O114(CS0) (io), 62 I/O117 (io), 63 I/O118 (io), 64 I/O119(D4) (io), 65 I/O120 (io), 66 VCC (power), 67 GND (power), 68 I/O121(D3) (io), 69 I/O122(~{CHECK}) (io), 70 I/O123 (io), 71 I/O127(D2) (io), 72 I/O128 (io), 73 I/O139(D1) (io), 74 I/O140 (io), 75 I/O143(D0) (io), 76 I/O144,GCK6(~{CSOUT}) (io), 77 CCLK (in), 78 VCC (power), 79 I/O151/TSTCLK (io), 80 GND (power), 81 I/O145(A0) (io), 82 I/O146,GCK7(A1) (io), 83 I/O149(~{CS}1,A2) (io), 84 I/O150(A3) (io), 85 I/O161(A4) (io), 86 I/O162(A5) (io), 87 I/O165 (io), 88 I/O166 (io), 89 I/O167(A6) (io), 90 I/O168(A7) (io), 91 GND (power), 92 VCC (power), 93 I/O169(A8) (io), 94 I/O170(A9) (io), 95 I/O171 (io), 96 I/O172 (io), 97 I/O175(A10) (io), 98 I/O176(A11) (io), 99 I/O185(A12) (io), 100 I/O186(A13) (io)